# Altium schematic symbol library ubloxLib.SchLib: 110 symbols (part 2 of 4)
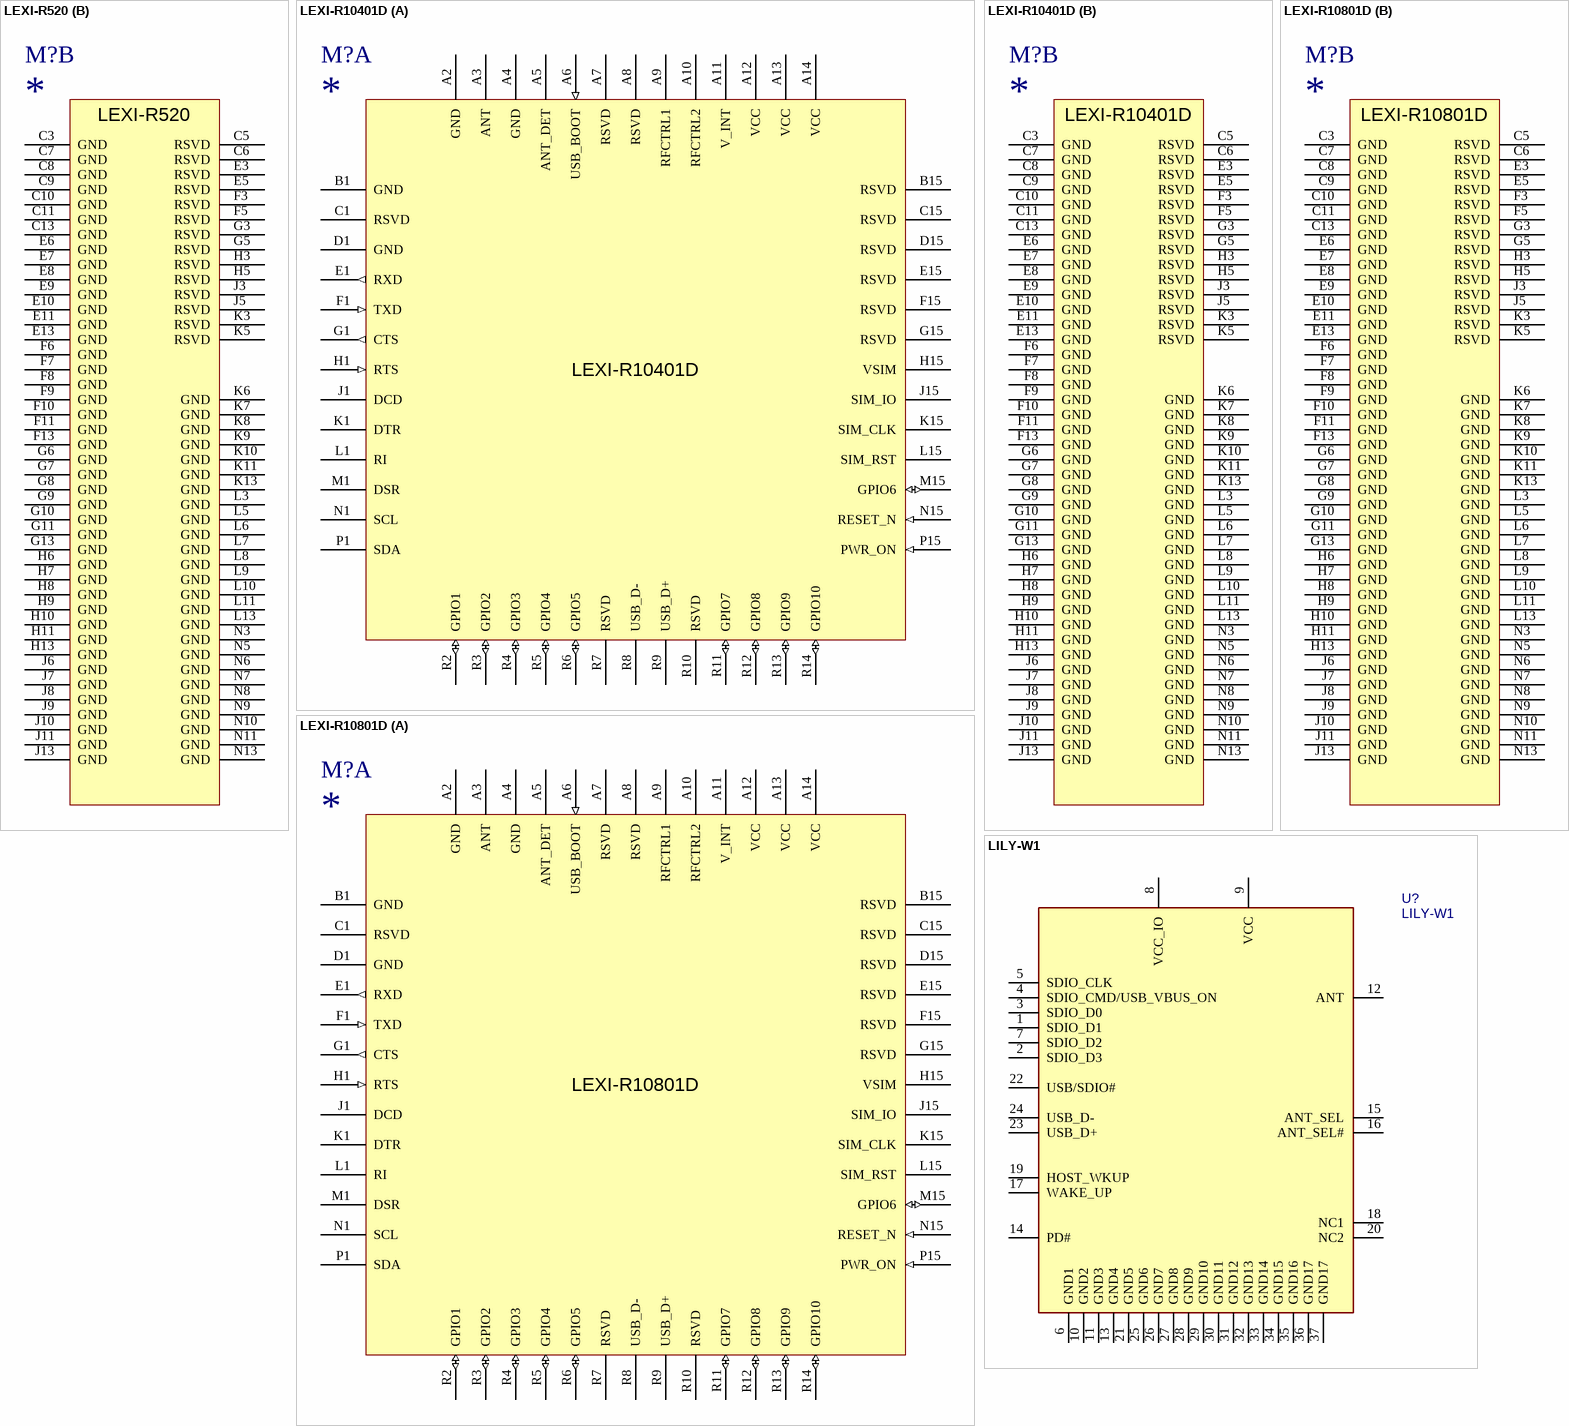
[diagram p24: symbols LEXI-R520 to LILY-W1]

## LEXI-R10801D
designator M?
u-blox LEXI-R10 series modules, a complete and cost-efficient / solution offering multi-band LTE Cat 1bis data transmissions in the ultra-compact LEXI form factor.; Manufacturer P/N: *
footprint LEXI (Footprint not found)
part A pins: A2 GND (power), A3 ANT "Cellular antenna", A4 GND (power), A5 ANT_DET "GPS antenna", A6 USB_BOOT (in), A7 RSVD (power), A8 RSVD (power), A9 RFCTRL1 "Antenna detection", A10 RFCTRL2 "GPS Antenna / LNA supply control", A11 V_INT "RF GPIO for cellular antenna tuning", A12 VCC "RF GPIO for cellular antenna tuning", A13 VCC "ADC input", A14 VCC "ADC input", B1 GND "Digital Interfaces supply output", B15 RSVD "Leave unconnected", C1 RSVD "UART data output", C15 RSVD "Leave unconnected", D1 GND "UARTdata input", D15 RSVD "Leave unconnected", E1 RXD (out) "UART clear to send", E15 RSVD "Leave unconnected", F1 TXD (in) "UART request to send", F15 RSVD "Leave unconnected", G1 CTS (out) "UART data carrier detect /  AUX UART data output", G15 RSVD "Leave unconnected", H1 RTS (in) "UART data terminal ready /  AUX UART data input", H15 VSIM "SIM voltage", J1 DCD "UART ring indicator /  AUX UART clear to send", J15 SIM_IO "SIM data", K1 DTR "UART data set ready /  AUX UART request to send", K15 SIM_CLK "SIM clock", L1 RI "Power-on input", L15 SIM_RST "SIM reset", M1 DSR "Leave unconnected", M15 GPIO6 (io) "SIM detection GPIO", N1 SCL "I2C bus clock line", N15 RESET_N (in) "Reset input (active low)", P1 SDA "I2C bus data line", P15 PWR_ON (in) "Power on input (active low)", R2 GPIO1 (io), R3 GPIO2 (io), R4 GPIO3 (io), R5 GPIO4 (io) "USB Data Line D-", R6 GPIO5 (io) "USB Data Line D+", R7 RSVD "Leave unconnected", R8 USB_D- "USB supply input", R9 USB_D+, R10 RSVD "Leave unconnected", R11 GPIO7 (io), R12 GPIO8 (io), R13 GPIO9 (io), R14 GPIO10 (io)
part B pins: C3 GND (power), C5 RSVD (power), C6 RSVD (power) "Module supply input", C7 GND (power), C8 GND (power), C9 GND (power), C10 GND (power), C11 GND (power), C13 GND (power), E3 RSVD (power) "Module supply input", E5 RSVD (power), E6 GND (power), E7 GND (power), E8 GND (power), E9 GND (power), E10 GND (power), E11 GND (power), E13 GND (power), F3 RSVD (power) "Module supply input", F5 RSVD (power), F6 GND (power), F7 GND (power), F8 GND (power), F9 GND (power), F10 GND (power), F11 GND (power), F13 GND (power), G3 RSVD (power), G5 RSVD (power), G6 GND (power), G7 GND (power), G8 GND (power), G9 GND (power), G10 GND (power), G11 GND (power), G13 GND (power), H3 RSVD (power), H5 RSVD (power), H6 GND (power), H7 GND (power), H8 GND (power), H9 GND (power), H10 GND (power), H11 GND (power), H13 GND (power), J3 RSVD (power), J5 RSVD (power), J6 GND (power), J7 GND (power), J8 GND (power), J9 GND (power), J10 GND (power), J11 GND (power), J13 GND (power), K3 RSVD (power), K5 RSVD (power), K6 GND (power), K7 GND (power), K8 GND (power), K9 GND (power), K10 GND (power), K11 GND (power), K13 GND (power), L3 GND (power), L5 GND (power), L6 GND (power), L7 GND (power), L8 GND (power), L9 GND (power), L10 GND (power), L11 GND (power), L13 GND (power), N3 GND (power), N5 GND (power), N6 GND (power), N7 GND (power), N8 GND (power), N9 GND (power), N10 GND (power), N11 GND (power), N13 GND (power)

## LILY-W1
designator U?
u-blox LILY-W1 host-based Wi-Fi module; Part Description: Host-based Wi-Fi module; Value: LILY-W1; Manufacturer: u-blox
footprint LILY-W1 (Host-based Wi-Fi module)
pins: 1 SDIO_D1, 2 SDIO_D3, 3 SDIO_D0, 4 SDIO_CMD/USB_VBUS_ON, 5 SDIO_CLK, 6 GND1, 7 SDIO_D2, 8 VCC_IO, 9 VCC, 10 GND2, 11 GND3, 12 ANT, 13 GND4, 14 PD#, 15 ANT_SEL, 16 ANT_SEL#, 17 WAKE_UP, 18 NC1, 19 HOST_WKUP, 20 NC2, 21 GND5, 22 USB/SDIO#, 23 USB_D+, 24 USB_D-, 25 GND6, 26 GND7, 27 GND8, 28 GND9, 29 GND10, 30 GND11, 31 GND12, 32 GND13, 33 GND14, 34 GND15, 35 GND16, 36 GND17, 37 GND17

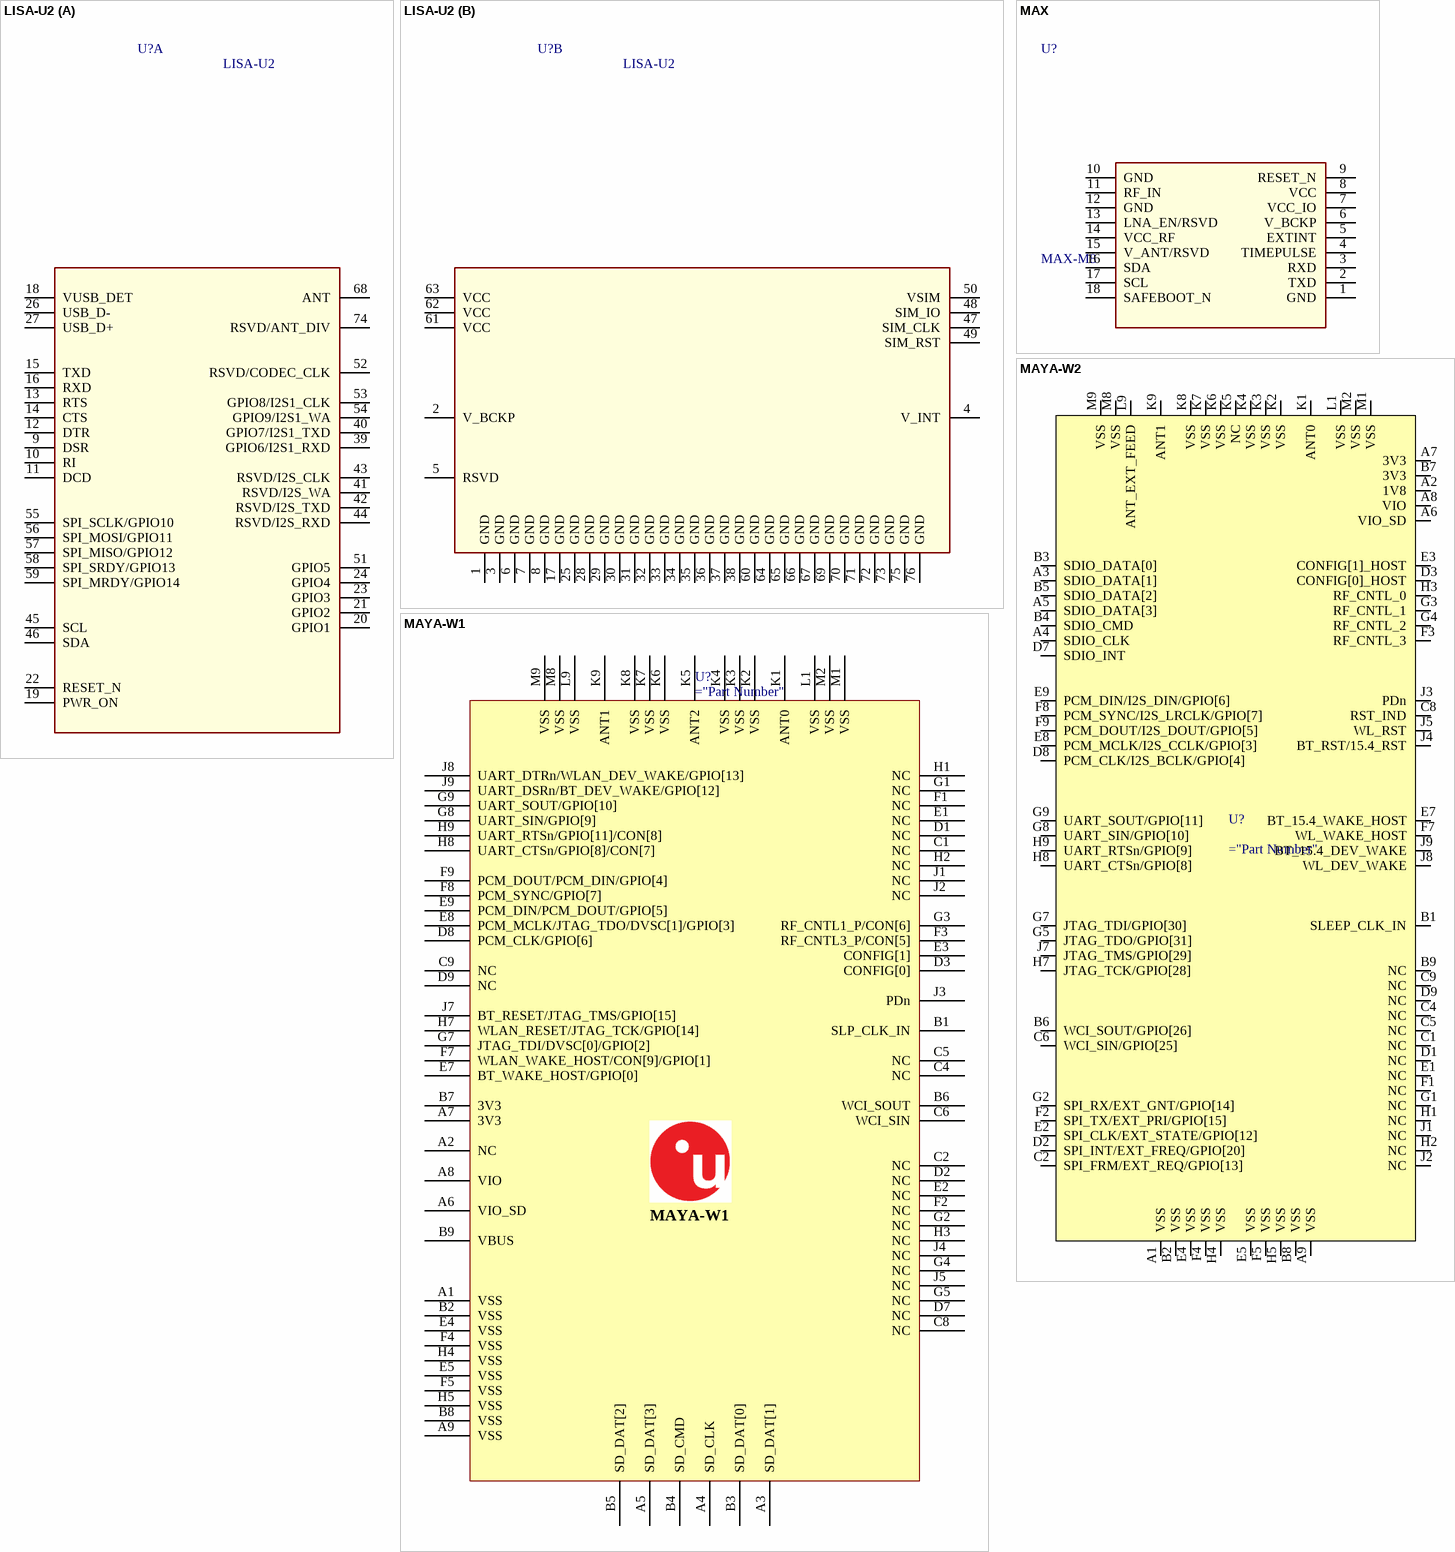
[diagram p8: symbols LISA-U2 to MAYA-W2]

## LISA-U2
designator U?
u-blox LISA-U2 3.75G HSPA+ Cellular Module; Manufacturer: u-blox; Part Description: 3.75G HSPA+ Cellular Module; Value: LISA-U2
footprint LISA-u2 (3.75G HSPA+ Cellular Module)
part A pins: 9 DSR, 10 RI, 11 DCD, 12 DTR, 13 RTS, 14 CTS, 15 TXD, 16 RXD, 18 VUSB_DET, 19 PWR_ON, 20 GPIO1, 21 GPIO2, 22 RESET_N, 23 GPIO3, 24 GPIO4, 26 USB_D-, 27 USB_D+, 39 GPIO6/I2S1_RXD, 40 GPIO7/I2S1_TXD, 41 RSVD/I2S_WA, 42 RSVD/I2S_TXD, 43 RSVD/I2S_CLK, 44 RSVD/I2S_RXD, 45 SCL, 46 SDA, 51 GPIO5, 52 RSVD/CODEC_CLK, 53 GPIO8/I2S1_CLK, 54 GPIO9/I2S1_WA, 55 SPI_SCLK/GPIO10, 56 SPI_MOSI/GPIO11, 57 SPI_MISO/GPIO12, 58 SPI_SRDY/GPIO13, 59 SPI_MRDY/GPIO14, 68 ANT, 74 RSVD/ANT_DIV
part B pins: 1 GND, 2 V_BCKP, 3 GND, 4 V_INT, 5 RSVD, 6 GND, 7 GND, 8 GND, 17 GND, 25 GND, 28 GND, 29 GND, 30 GND, 31 GND, 32 GND, 33 GND, 34 GND, 35 GND, 36 GND, 37 GND, 38 GND, 47 SIM_CLK, 48 SIM_IO, 49 SIM_RST, 50 VSIM, 60 GND, 61 VCC, 62 VCC, 63 VCC, 64 GND, 65 GND, 66 GND, 67 GND, 69 GND, 70 GND, 71 GND, 72 GND, 73 GND, 75 GND, 76 GND

## MAX
designator U?, comment MAX-M8
u-blox MAX GNSS module; Part Description: u-blox GNSS module; Manufacturer: u-blox; Value: MAX-M8
footprint MAX-M8 (u-blox M8 concurrent GNSS modules)
pins: 1 GND, 2 TXD, 3 RXD, 4 TIMEPULSE, 5 EXTINT, 6 V_BCKP, 7 VCC_IO, 8 VCC, 9 RESET_N, 10 GND, 11 RF_IN, 12 GND, 13 LNA_EN/RSVD, 14 VCC_RF, 15 V_ANT/RSVD, 16 SDA, 17 SCL, 18 SAFEBOOT_N

## MAYA-W1
designator U?
u-blox MAYA-W1 host-based modules with Wi-Fi and dual-mode Bluetooth; ComponentLink1URL: *; ComponentLink1Description: Datasheet; ComponentLink2URL: *; ComponentLink2Description: Supplier link; Manufacturer P/N: *
footprint MAYA-W1 (MAYA LGA, 86pin ,1.1mm Pitch, 14.3mm x 10.4mm)
pins: A1 VSS (power), A2 NC, A3 SD_DAT[1], A4 SD_CLK, A5 SD_DAT[3], A6 VIO_SD, A7 3V3 (power), A8 VIO (power), A9 VSS (power), B1 SLP_CLK_IN, B2 VSS (power), B3 SD_DAT[0], B4 SD_CMD, B5 SD_DAT[2], B6 WCI_SOUT, B7 3V3 (power), B8 VSS (power), B9 VBUS (power), C1 NC, C2 NC, C4 NC, C5 NC, C6 WCI_SIN, C8 NC, C9 NC, D1 NC, D2 NC, D3 CONFIG[0], D7 NC, D8 PCM_CLK/GPIO[6], D9 NC, E1 NC, E2 NC, E3 CONFIG[1], E4 VSS (power), E5 VSS (power), E7 BT_WAKE_HOST/GPIO[0], E8 PCM_MCLK/JTAG_TDO/DVSC[1]/GPIO[3], E9 PCM_DIN/PCM_DOUT/GPIO[5], F1 NC, F2 NC, F3 RF_CNTL3_P/CON[5], F4 VSS (power), F5 VSS (power), F7 WLAN_WAKE_HOST/CON[9]/GPIO[1], F8 PCM_SYNC/GPIO[7], F9 PCM_DOUT/PCM_DIN/GPIO[4], G1 NC, G2 NC, G3 RF_CNTL1_P/CON[6], G4 NC, G5 NC, G7 JTAG_TDI/DVSC[0]/GPIO[2], G8 UART_SIN/GPIO[9], G9 UART_SOUT/GPIO[10], H1 NC, H2 NC, H3 NC, H4 VSS (power), H5 VSS (power), H7 WLAN_RESET/JTAG_TCK/GPIO[14], H8 UART_CTSn/GPIO[8]/CON[7], H9 UART_RTSn/GPIO[11]/CON[8], J1 NC, J2 NC, J3 PDn, J4 NC, J5 NC, J7 BT_RESET/JTAG_TMS/GPIO[15], J8 UART_DTRn/WLAN_DEV_WAKE/GPIO[13], J9 UART_DSRn/BT_DEV_WAKE/GPIO[12], K1 ANT0, K2 VSS (power), K3 VSS (power), K4 VSS (power), K5 ANT2, K6 VSS (power), K7 VSS (power), K8 VSS (power), K9 ANT1, L1 VSS (power), L9 VSS (power), M1 VSS (power), M2 VSS (power), M8 VSS (power), M9 VSS (power)

## MAYA-W2
designator U?
u-blox MAYA-W2 host-based modules with Wi-Fi and dual-mode Bluetooth
footprint MAYA-W2_2UFL-ANT (MAYA-W2 Footprint 86 Pin, / U.FL Antenna connection)
footprint MAYA-W2_EMB-ANT (MAYA-W2 Footprint 86 Pin, / Embedded antenna)
pins: A1 VSS, A2 1V8, A3 SDIO_DATA[1], A4 SDIO_CLK, A5 SDIO_DATA[3], A6 VIO_SD, A7 3V3, A8 VIO, A9 VSS, B1 SLEEP_CLK_IN, B2 VSS, B3 SDIO_DATA[0], B4 SDIO_CMD, B5 SDIO_DATA[2], B6 WCI_SOUT/GPIO[26], B7 3V3, B8 VSS, B9 NC "reserved for VUSB", C1 NC "reserved for PCIe", C2 SPI_FRM/EXT_REQ/GPIO[13], C4 NC "reserved for I2C", C5 NC "reserved for I2C", C6 WCI_SIN/GPIO[25], C8 RST_IND, C9 NC "reserved for USB", D1 NC "reserved for PCIe", D2 SPI_INT/EXT_FREQ/GPIO[20], D3 CONFIG[0]_HOST, D7 SDIO_INT, D8 PCM_CLK/I2S_BCLK/GPIO[4], D9 NC "reserved for USB", E1 NC "reserved for PCIe", E2 SPI_CLK/EXT_STATE/GPIO[12], E3 CONFIG[1]_HOST, E4 VSS, E5 VSS, E7 BT_15.4_WAKE_HOST, E8 PCM_MCLK/I2S_CCLK/GPIO[3], E9 PCM_DIN/I2S_DIN/GPIO[6], F1 NC "reserved for PCIe", F2 SPI_TX/EXT_PRI/GPIO[15], F3 RF_CNTL_3, F4 VSS, F5 VSS, F7 WL_WAKE_HOST, F8 PCM_SYNC/I2S_LRCLK/GPIO[7], F9 PCM_DOUT/I2S_DOUT/GPIO[5], G1 NC "reserved for PCIe", G2 SPI_RX/EXT_GNT/GPIO[14], G3 RF_CNTL_1, G4 RF_CNTL_2, G5 JTAG_TDO/GPIO[31], G7 JTAG_TDI/GPIO[30], G8 UART_SIN/GPIO[10], G9 UART_SOUT/GPIO[11], H1 NC "reserved for PCIe", H2 NC "reserved for PCIe", H3 RF_CNTL_0, H4 VSS, H5 VSS, H7 JTAG_TCK/GPIO[28], H8 UART_CTSn/GPIO[8], H9 UART_RTSn/GPIO[9], J1 NC "reserved for PCIe", J2 NC "reserved for PCIe", J3 PDn, J4 BT_RST/15.4_RST, J5 WL_RST, J7 JTAG_TMS/GPIO[29], J8 WL_DEV_WAKE, J9 BT_15.4_DEV_WAKE, K1 ANT0, K2 VSS, K3 VSS, K4 VSS, K5 NC, K6 VSS, K7 VSS, K8 VSS, K9 ANT1, L1 VSS, L9 ANT_EXT_FEED, M1 VSS, M2 VSS, M8 VSS, M9 VSS

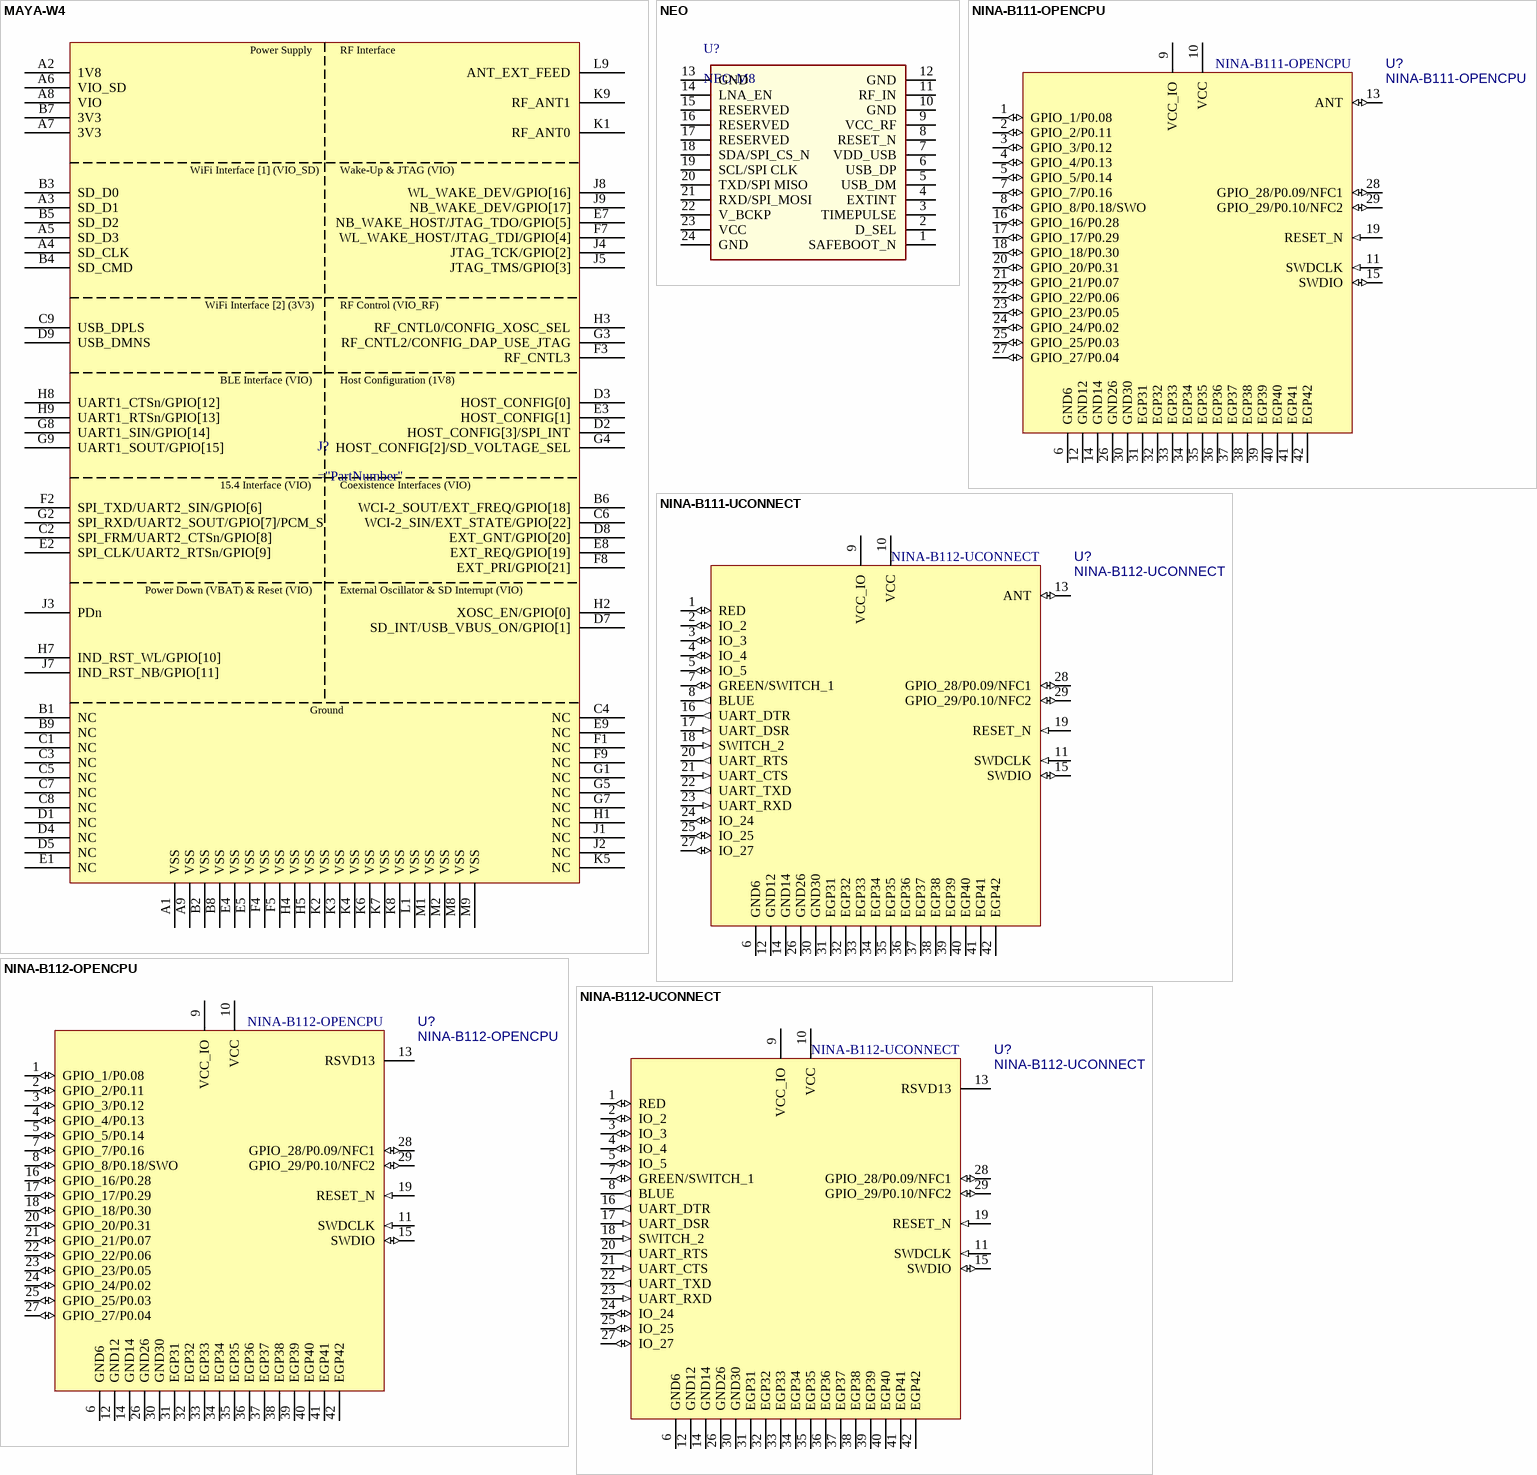
[diagram p9: symbols MAYA-W4 to NINA-B112-UCONNECT]

## MAYA-W4
designator J?
u-blox MAYA-W4 host-based modules with Wi-Fi and dual-mode Bluetooth; Part Description: MAYA-W4 Triradio Wlan, BLE, 15.4 module; Env: ROHS; Permitted Use: Volume Products; Mfg P/N Released: Yes; Ref Des: J; Manufacturer PN: MAYA-W4; Manufacturer: u-blox; Value: MAYA-W4; Supplier: u-blox; Part Type: PCB Assembly; Preferred: Yes
footprint MAYA_LGA90R_1430X1040 (MAYA-W4 LGA-90)
pins: A1 VSS, A2 1V8, A3 SD_D1, A4 SD_CLK, A5 SD_D3, A6 VIO_SD, A7 3V3, A8 VIO, A9 VSS, B1 NC, B2 VSS, B3 SD_D0, B4 SD_CMD, B5 SD_D2, B6 WCI-2_SOUT/EXT_FREQ/GPIO[18], B7 3V3, B8 VSS, B9 NC, C1 NC, C2 SPI_FRM/UART2_CTSn/GPIO[8], C3 NC, C4 NC, C5 NC, C6 WCI-2_SIN/EXT_STATE/GPIO[22], C7 NC, C8 NC, C9 USB_DPLS, D1 NC, D2 HOST_CONFIG[3]/SPI_INT, D3 HOST_CONFIG[0], D4 NC, D5 NC, D7 SD_INT/USB_VBUS_ON/GPIO[1], D8 EXT_GNT/GPIO[20], D9 USB_DMNS, E1 NC, E2 SPI_CLK/UART2_RTSn/GPIO[9], E3 HOST_CONFIG[1], E4 VSS, E5 VSS, E7 NB_WAKE_HOST/JTAG_TDO/GPIO[5], E8 EXT_REQ/GPIO[19], E9 NC, F1 NC, F2 SPI_TXD/UART2_SIN/GPIO[6], F3 RF_CNTL3, F4 VSS, F5 VSS, F7 WL_WAKE_HOST/JTAG_TDI/GPIO[4], F8 EXT_PRI/GPIO[21], F9 NC, G1 NC, G2 SPI_RXD/UART2_SOUT/GPIO[7]/PCM_S, G3 RF_CNTL2/CONFIG_DAP_USE_JTAG, G4 HOST_CONFIG[2]/SD_VOLTAGE_SEL, G5 NC, G7 NC, G8 UART1_SIN/GPIO[14], G9 UART1_SOUT/GPIO[15], H1 NC, H2 XOSC_EN/GPIO[0], H3 RF_CNTL0/CONFIG_XOSC_SEL, H4 VSS, H5 VSS, H7 IND_RST_WL/GPIO[10], H8 UART1_CTSn/GPIO[12], H9 UART1_RTSn/GPIO[13], J1 NC, J2 NC, J3 PDn, J4 JTAG_TCK/GPIO[2], J5 JTAG_TMS/GPIO[3], J7 IND_RST_NB/GPIO[11], J8 WL_WAKE_DEV/GPIO[16], J9 NB_WAKE_DEV/GPIO[17], K1 RF_ANT0, K2 VSS, K3 VSS, K4 VSS, K5 NC, K6 VSS, K7 VSS, K8 VSS, K9 RF_ANT1, L1 VSS, L9 ANT_EXT_FEED, M1 VSS, M2 VSS, M8 VSS, M9 VSS
text: Power Supply; RF Interface; WiFi Interface [1] (VIO_SD); Wake-Up & JTAG (VIO); WiFi Interface [2] (3V3); RF Control (VIO_RF); BLE Interface (VIO); Host Configuration (1V8); 15.4 Interface (VIO); Coexistence Interfaces (VIO); Power Down (VBAT) & Reset (VIO); External Oscillator & SD Interrupt (VIO); Ground

## NEO
designator U?, comment NEO-M8
u-blox NEO GNSS module; Part Description: u-blox GNSS module; Manufacturer: u-blox; Value: NEO-M8
footprint NEO (u-blox NEO GNSS module)
pins: 1 SAFEBOOT_N, 2 D_SEL, 3 TIMEPULSE, 4 EXTINT, 5 USB_DM, 6 USB_DP, 7 VDD_USB, 8 RESET_N, 9 VCC_RF, 10 GND, 11 RF_IN, 12 GND, 13 GND, 14 LNA_EN, 15 RESERVED, 16 RESERVED, 17 RESERVED, 18 SDA/SPI_CS_N, 19 SCL/SPI CLK, 20 TXD/SPI MISO, 21 RXD/SPI_MOSI, 22 V_BCKP, 23 VCC, 24 GND

## NINA-B111-OPENCPU
designator U?
u-blox NINA-B112 Bluetooth 5 LE module; Part Description: Stand-alone Bluetooth low energy module; Manufacturer: u-blox; Value: NINA-B111-OPENCPU
footprint NINA_LGA42R_1060X1000X220_PIN (Stand-alone Bluetooth low energy module)
pins: 1 GPIO_1/P0.08 (io), 2 GPIO_2/P0.11 (io), 3 GPIO_3/P0.12 (io), 4 GPIO_4/P0.13 (io), 5 GPIO_5/P0.14 (io), 6 GND6 (power), 7 GPIO_7/P0.16 (io), 8 GPIO_8/P0.18/SWO (io), 9 VCC_IO (power), 10 VCC (power), 11 SWDCLK (in), 12 GND12 (power), 13 ANT (io), 14 GND14 (power), 15 SWDIO (io), 16 GPIO_16/P0.28 (io), 17 GPIO_17/P0.29 (io), 18 GPIO_18/P0.30 (io), 19 RESET_N (in), 20 GPIO_20/P0.31 (io), 21 GPIO_21/P0.07 (io), 22 GPIO_22/P0.06 (io), 23 GPIO_23/P0.05 (io), 24 GPIO_24/P0.02 (io), 25 GPIO_25/P0.03 (io), 26 GND26 (power), 27 GPIO_27/P0.04 (io), 28 GPIO_28/P0.09/NFC1 (io), 29 GPIO_29/P0.10/NFC2 (io), 30 GND30 (power), 31 EGP31 (power), 32 EGP32 (power), 33 EGP33 (power), 34 EGP34 (power), 35 EGP35 (power), 36 EGP36 (power), 37 EGP37 (power), 38 EGP38 (power), 39 EGP39 (power), 40 EGP40 (power), 41 EGP41 (power), 42 EGP42 (power)

## NINA-B111-UCONNECT
designator U?, comment NINA-B112-UCONNECT
u-blox NINA-B112 Bluetooth 5 LE module; Part Description: Stand-alone Bluetooth low energy module; Manufacturer: u-blox; Value: NINA-B112-UCONNECT
footprint NINA_LGA42R_1060X1000X220_PIN (Stand-alone Bluetooth low energy module)
pins: 1 RED (io), 2 IO_2 (io), 3 IO_3 (io), 4 IO_4 (io), 5 IO_5 (io), 6 GND6 (power), 7 GREEN/SWITCH_1 (io), 8 BLUE (out), 9 VCC_IO (power), 10 VCC (power), 11 SWDCLK (in), 12 GND12 (power), 13 ANT (io), 14 GND14 (power), 15 SWDIO (io), 16 UART_DTR (out), 17 UART_DSR (in), 18 SWITCH_2 (in), 19 RESET_N (in), 20 UART_RTS (out), 21 UART_CTS (in), 22 UART_TXD (out), 23 UART_RXD (in), 24 IO_24 (io), 25 IO_25 (io), 26 GND26 (power), 27 IO_27 (io), 28 GPIO_28/P0.09/NFC1 (io), 29 GPIO_29/P0.10/NFC2 (io), 30 GND30 (power), 31 EGP31 (power), 32 EGP32 (power), 33 EGP33 (power), 34 EGP34 (power), 35 EGP35 (power), 36 EGP36 (power), 37 EGP37 (power), 38 EGP38 (power), 39 EGP39 (power), 40 EGP40 (power), 41 EGP41 (power), 42 EGP42 (power)

## NINA-B112-OPENCPU
designator U?
u-blox NINA-B112 Bluetooth 5 LE module; Part Description: Stand-alone Bluetooth low energy module; Manufacturer: u-blox; Value: NINA-B112-OPENCPU
footprint NINA_LGA42R_1400X1000X380_PIFA (Stand-alone Bluetooth low energy module)
pins: 1 GPIO_1/P0.08 (io), 2 GPIO_2/P0.11 (io), 3 GPIO_3/P0.12 (io), 4 GPIO_4/P0.13 (io), 5 GPIO_5/P0.14 (io), 6 GND6 (power), 7 GPIO_7/P0.16 (io), 8 GPIO_8/P0.18/SWO (io), 9 VCC_IO (power), 10 VCC (power), 11 SWDCLK (in), 12 GND12 (power), 13 RSVD13, 14 GND14 (power), 15 SWDIO (io), 16 GPIO_16/P0.28 (io), 17 GPIO_17/P0.29 (io), 18 GPIO_18/P0.30 (io), 19 RESET_N (in), 20 GPIO_20/P0.31 (io), 21 GPIO_21/P0.07 (io), 22 GPIO_22/P0.06 (io), 23 GPIO_23/P0.05 (io), 24 GPIO_24/P0.02 (io), 25 GPIO_25/P0.03 (io), 26 GND26 (power), 27 GPIO_27/P0.04 (io), 28 GPIO_28/P0.09/NFC1 (io), 29 GPIO_29/P0.10/NFC2 (io), 30 GND30 (power), 31 EGP31 (power), 32 EGP32 (power), 33 EGP33 (power), 34 EGP34 (power), 35 EGP35 (power), 36 EGP36 (power), 37 EGP37 (power), 38 EGP38 (power), 39 EGP39 (power), 40 EGP40 (power), 41 EGP41 (power), 42 EGP42 (power)

## NINA-B112-UCONNECT
designator U?
u-blox NINA-B112 Bluetooth 5 LE module; Part Description: Stand-alone Bluetooth low energy module; Manufacturer: u-blox; Value: NINA-B112-UCONNECT
footprint NINA_LGA42R_1400X1000X380_PIFA (Stand-alone Bluetooth low energy module)
pins: 1 RED (io), 2 IO_2 (io), 3 IO_3 (io), 4 IO_4 (io), 5 IO_5 (io), 6 GND6 (power), 7 GREEN/SWITCH_1 (io), 8 BLUE (out), 9 VCC_IO (power), 10 VCC (power), 11 SWDCLK (in), 12 GND12 (power), 13 RSVD13, 14 GND14 (power), 15 SWDIO (io), 16 UART_DTR (out), 17 UART_DSR (in), 18 SWITCH_2 (in), 19 RESET_N (in), 20 UART_RTS (out), 21 UART_CTS (in), 22 UART_TXD (out), 23 UART_RXD (in), 24 IO_24 (io), 25 IO_25 (io), 26 GND26 (power), 27 IO_27 (io), 28 GPIO_28/P0.09/NFC1 (io), 29 GPIO_29/P0.10/NFC2 (io), 30 GND30 (power), 31 EGP31 (power), 32 EGP32 (power), 33 EGP33 (power), 34 EGP34 (power), 35 EGP35 (power), 36 EGP36 (power), 37 EGP37 (power), 38 EGP38 (power), 39 EGP39 (power), 40 EGP40 (power), 41 EGP41 (power), 42 EGP42 (power)

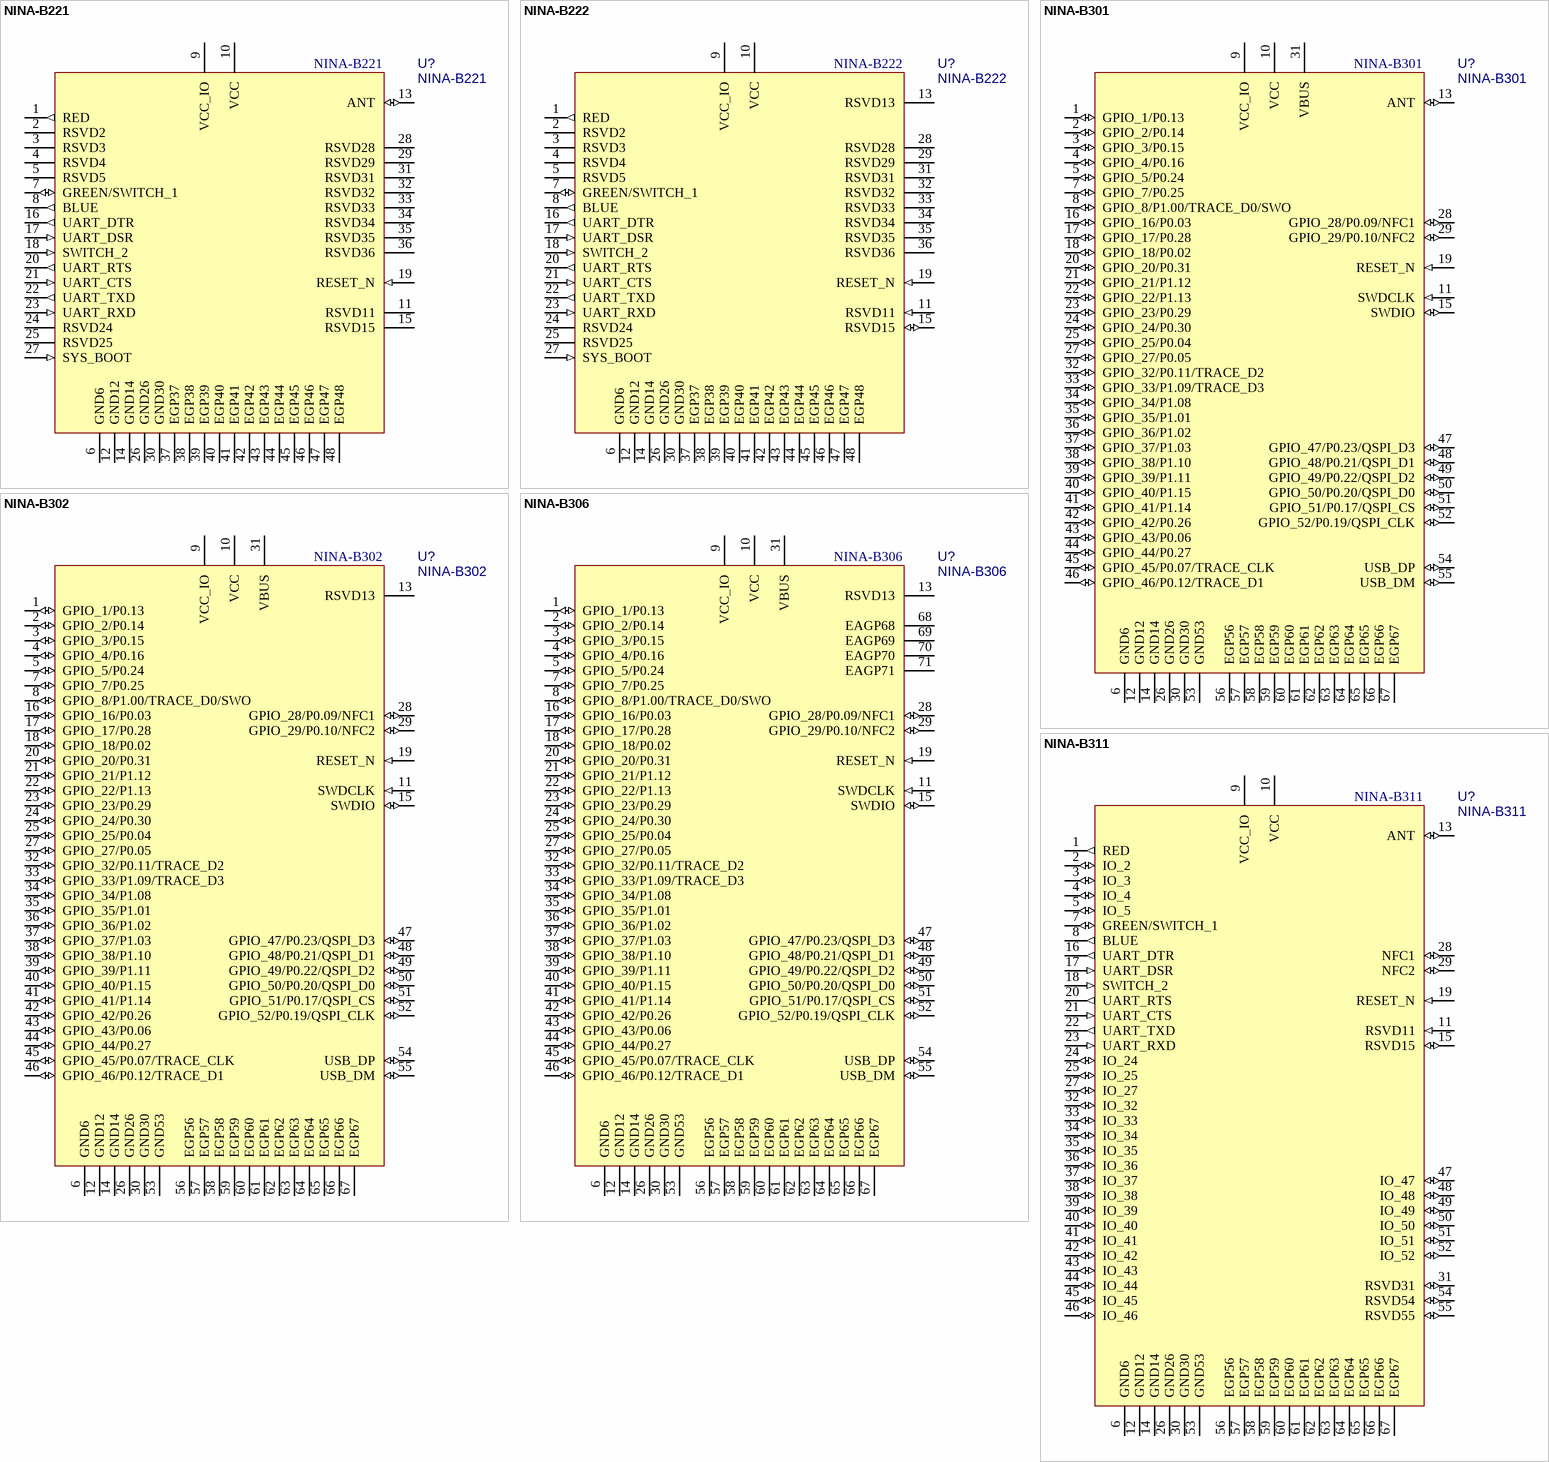
[diagram p10: symbols NINA-B221 to NINA-B311]

## NINA-B221
designator U?
u-blox NINA-B221 Bluetooth 5 LE, WiFi module; Part Description: Stand-alone Bluetooth low energy module; Manufacturer: u-blox; Value: NINA-B221
footprint NINA_LGA48R_1060X1000X220_PIN (Stand-alone Bluetooth low energy module)
pins: 1 RED (out), 2 RSVD2, 3 RSVD3, 4 RSVD4, 5 RSVD5, 6 GND6 (power), 7 GREEN/SWITCH_1 (io), 8 BLUE (out), 9 VCC_IO (power), 10 VCC (power), 11 RSVD11, 12 GND12 (power), 13 ANT (io), 14 GND14 (power), 15 RSVD15, 16 UART_DTR (out), 17 UART_DSR (in), 18 SWITCH_2 (in), 19 RESET_N (in), 20 UART_RTS (out), 21 UART_CTS (in), 22 UART_TXD (out), 23 UART_RXD (in), 24 RSVD24, 25 RSVD25, 26 GND26 (power), 27 SYS_BOOT (in), 28 RSVD28, 29 RSVD29, 30 GND30 (power), 31 RSVD31, 32 RSVD32, 33 RSVD33, 34 RSVD34, 35 RSVD35, 36 RSVD36, 37 EGP37 (power), 38 EGP38 (power), 39 EGP39 (power), 40 EGP40 (power), 41 EGP41 (power), 42 EGP42 (power), 43 EGP43 (power), 44 EGP44 (power), 45 EGP45 (power), 46 EGP46 (power), 47 EGP47 (power), 48 EGP48 (power)

## NINA-B222
designator U?
u-blox NINA-B221 Bluetooth 5 LE, WiFi module; Part Description: Stand-alone Bluetooth low energy module; Manufacturer: u-blox; Value: NINA-B222
footprint NINA_LGA48R_1400X1000X380_PIFA (Stand-alone Bluetooth low energy module)
pins: 1 RED (out), 2 RSVD2, 3 RSVD3, 4 RSVD4, 5 RSVD5, 6 GND6 (power), 7 GREEN/SWITCH_1 (io), 8 BLUE (out), 9 VCC_IO (power), 10 VCC (power), 11 RSVD11 (in), 12 GND12 (power), 13 RSVD13, 14 GND14 (power), 15 RSVD15 (io), 16 UART_DTR (out), 17 UART_DSR (in), 18 SWITCH_2 (in), 19 RESET_N (in), 20 UART_RTS (out), 21 UART_CTS (in), 22 UART_TXD (out), 23 UART_RXD (in), 24 RSVD24, 25 RSVD25, 26 GND26 (power), 27 SYS_BOOT (in), 28 RSVD28, 29 RSVD29, 30 GND30 (power), 31 RSVD31, 32 RSVD32, 33 RSVD33, 34 RSVD34, 35 RSVD35, 36 RSVD36, 37 EGP37 (power), 38 EGP38 (power), 39 EGP39 (power), 40 EGP40 (power), 41 EGP41 (power), 42 EGP42 (power), 43 EGP43 (power), 44 EGP44 (power), 45 EGP45 (power), 46 EGP46 (power), 47 EGP47 (power), 48 EGP48 (power)

## NINA-B301
designator U?
u-blox NINA-B301 Bluetooth 5 LE, 802.15.4 module; Part Description: Stand-alone Bluetooth low energy module; Manufacturer: u-blox; Value: NINA-B301
footprint NINA_LGA67R_1160X1000X223_PIN (Stand-alone Bluetooth low energy module)
pins: 1 GPIO_1/P0.13 (io), 2 GPIO_2/P0.14 (io), 3 GPIO_3/P0.15 (io), 4 GPIO_4/P0.16 (io), 5 GPIO_5/P0.24 (io), 6 GND6 (power), 7 GPIO_7/P0.25 (io), 8 GPIO_8/P1.00/TRACE_D0/SWO (io), 9 VCC_IO (power), 10 VCC (power), 11 SWDCLK (in), 12 GND12 (power), 13 ANT (io), 14 GND14 (power), 15 SWDIO (io), 16 GPIO_16/P0.03 (io), 17 GPIO_17/P0.28 (io), 18 GPIO_18/P0.02 (io), 19 RESET_N (in), 20 GPIO_20/P0.31 (io), 21 GPIO_21/P1.12 (io), 22 GPIO_22/P1.13 (io), 23 GPIO_23/P0.29 (io), 24 GPIO_24/P0.30 (io), 25 GPIO_25/P0.04 (io), 26 GND26 (power), 27 GPIO_27/P0.05 (io), 28 GPIO_28/P0.09/NFC1 (io), 29 GPIO_29/P0.10/NFC2 (io), 30 GND30 (power), 31 VBUS (power), 32 GPIO_32/P0.11/TRACE_D2 (io), 33 GPIO_33/P1.09/TRACE_D3 (io), 34 GPIO_34/P1.08 (io), 35 GPIO_35/P1.01 (io), 36 GPIO_36/P1.02 (io), 37 GPIO_37/P1.03 (io), 38 GPIO_38/P1.10 (io), 39 GPIO_39/P1.11 (io), 40 GPIO_40/P1.15 (io), 41 GPIO_41/P1.14 (io), 42 GPIO_42/P0.26 (io), 43 GPIO_43/P0.06 (io), 44 GPIO_44/P0.27 (io), 45 GPIO_45/P0.07/TRACE_CLK (io), 46 GPIO_46/P0.12/TRACE_D1 (io), 47 GPIO_47/P0.23/QSPI_D3 (io), 48 GPIO_48/P0.21/QSPI_D1 (io), 49 GPIO_49/P0.22/QSPI_D2 (io), 50 GPIO_50/P0.20/QSPI_D0 (io), 51 GPIO_51/P0.17/QSPI_CS (io), 52 GPIO_52/P0.19/QSPI_CLK (io), 53 GND53 (power), 54 USB_DP (io), 55 USB_DM (io), 56 EGP56 (power), 57 EGP57 (power), 58 EGP58 (power), 59 EGP59 (power), 60 EGP60 (power), 61 EGP61 (power), 62 EGP62 (power), 63 EGP63 (power), 64 EGP64 (power), 65 EGP65 (power), 66 EGP66 (power), 67 EGP67 (power)

## NINA-B302
designator U?
u-blox NINA-B302 Bluetooth 5 LE, 802.15.4 module; Part Description: Stand-alone Bluetooth low energy module; Manufacturer: u-blox; Value: NINA-B302
footprint NINA_LGA67R_1500X1000X338_PIFA (Stand-alone Bluetooth low energy module)
pins: 1 GPIO_1/P0.13 (io), 2 GPIO_2/P0.14 (io), 3 GPIO_3/P0.15 (io), 4 GPIO_4/P0.16 (io), 5 GPIO_5/P0.24 (io), 6 GND6 (power), 7 GPIO_7/P0.25 (io), 8 GPIO_8/P1.00/TRACE_D0/SWO (io), 9 VCC_IO (power), 10 VCC (power), 11 SWDCLK (in), 12 GND12 (power), 13 RSVD13, 14 GND14 (power), 15 SWDIO (io), 16 GPIO_16/P0.03 (io), 17 GPIO_17/P0.28 (io), 18 GPIO_18/P0.02 (io), 19 RESET_N (in), 20 GPIO_20/P0.31 (io), 21 GPIO_21/P1.12 (io), 22 GPIO_22/P1.13 (io), 23 GPIO_23/P0.29 (io), 24 GPIO_24/P0.30 (io), 25 GPIO_25/P0.04 (io), 26 GND26 (power), 27 GPIO_27/P0.05 (io), 28 GPIO_28/P0.09/NFC1 (io), 29 GPIO_29/P0.10/NFC2 (io), 30 GND30 (power), 31 VBUS (power), 32 GPIO_32/P0.11/TRACE_D2 (io), 33 GPIO_33/P1.09/TRACE_D3 (io), 34 GPIO_34/P1.08 (io), 35 GPIO_35/P1.01 (io), 36 GPIO_36/P1.02 (io), 37 GPIO_37/P1.03 (io), 38 GPIO_38/P1.10 (io), 39 GPIO_39/P1.11 (io), 40 GPIO_40/P1.15 (io), 41 GPIO_41/P1.14 (io), 42 GPIO_42/P0.26 (io), 43 GPIO_43/P0.06 (io), 44 GPIO_44/P0.27 (io), 45 GPIO_45/P0.07/TRACE_CLK (io), 46 GPIO_46/P0.12/TRACE_D1 (io), 47 GPIO_47/P0.23/QSPI_D3 (io), 48 GPIO_48/P0.21/QSPI_D1 (io), 49 GPIO_49/P0.22/QSPI_D2 (io), 50 GPIO_50/P0.20/QSPI_D0 (io), 51 GPIO_51/P0.17/QSPI_CS (io), 52 GPIO_52/P0.19/QSPI_CLK (io), 53 GND53 (power), 54 USB_DP (io), 55 USB_DM (io), 56 EGP56 (power), 57 EGP57 (power), 58 EGP58 (power), 59 EGP59 (power), 60 EGP60 (power), 61 EGP61 (power), 62 EGP62 (power), 63 EGP63 (power), 64 EGP64 (power), 65 EGP65 (power), 66 EGP66 (power), 67 EGP67 (power)

## NINA-B306
designator U?
u-blox NINA-B306 Bluetooth 5 LE, 802.15.4 module; Part Description: Stand-alone Bluetooth low energy module; Manufacturer: u-blox; Value: NINA-B306
footprint NINA_LGA71R_1500X1000X223_PCB (Stand-alone Bluetooth low energy module)
pins: 1 GPIO_1/P0.13 (io), 2 GPIO_2/P0.14 (io), 3 GPIO_3/P0.15 (io), 4 GPIO_4/P0.16 (io), 5 GPIO_5/P0.24 (io), 6 GND6 (power), 7 GPIO_7/P0.25 (io), 8 GPIO_8/P1.00/TRACE_D0/SWO (io), 9 VCC_IO (power), 10 VCC (power), 11 SWDCLK (in), 12 GND12 (power), 13 RSVD13, 14 GND14 (power), 15 SWDIO (io), 16 GPIO_16/P0.03 (io), 17 GPIO_17/P0.28 (io), 18 GPIO_18/P0.02 (io), 19 RESET_N (in), 20 GPIO_20/P0.31 (io), 21 GPIO_21/P1.12 (io), 22 GPIO_22/P1.13 (io), 23 GPIO_23/P0.29 (io), 24 GPIO_24/P0.30 (io), 25 GPIO_25/P0.04 (io), 26 GND26 (power), 27 GPIO_27/P0.05 (io), 28 GPIO_28/P0.09/NFC1 (io), 29 GPIO_29/P0.10/NFC2 (io), 30 GND30 (power), 31 VBUS (power), 32 GPIO_32/P0.11/TRACE_D2 (io), 33 GPIO_33/P1.09/TRACE_D3 (io), 34 GPIO_34/P1.08 (io), 35 GPIO_35/P1.01 (io), 36 GPIO_36/P1.02 (io), 37 GPIO_37/P1.03 (io), 38 GPIO_38/P1.10 (io), 39 GPIO_39/P1.11 (io), 40 GPIO_40/P1.15 (io), 41 GPIO_41/P1.14 (io), 42 GPIO_42/P0.26 (io), 43 GPIO_43/P0.06 (io), 44 GPIO_44/P0.27 (io), 45 GPIO_45/P0.07/TRACE_CLK (io), 46 GPIO_46/P0.12/TRACE_D1 (io), 47 GPIO_47/P0.23/QSPI_D3 (io), 48 GPIO_48/P0.21/QSPI_D1 (io), 49 GPIO_49/P0.22/QSPI_D2 (io), 50 GPIO_50/P0.20/QSPI_D0 (io), 51 GPIO_51/P0.17/QSPI_CS (io), 52 GPIO_52/P0.19/QSPI_CLK (io), 53 GND53 (power), 54 USB_DP (io), 55 USB_DM (io), 56 EGP56 (power), 57 EGP57 (power), 58 EGP58 (power), 59 EGP59 (power), 60 EGP60 (power), 61 EGP61 (power), 62 EGP62 (power), 63 EGP63 (power), 64 EGP64 (power), 65 EGP65 (power), 66 EGP66 (power), 67 EGP67 (power), 68 EAGP68 (power), 69 EAGP69 (power), 70 EAGP70 (power), 71 EAGP71 (power)

## NINA-B311
designator U?
u-blox NINA-B311 Bluetooth 5 LE, 802.15.4 module; Part Description: Stand-alone Bluetooth low energy module; Manufacturer: u-blox; Value: NINA-B311
footprint NINA_LGA67R_1160X1000X223_PIN (Stand-alone Bluetooth low energy module)
pins: 1 RED (out), 2 IO_2 (io), 3 IO_3 (io), 4 IO_4 (io), 5 IO_5 (io), 6 GND6 (power), 7 GREEN/SWITCH_1 (io), 8 BLUE (out), 9 VCC_IO (power), 10 VCC (power), 11 RSVD11 (in), 12 GND12 (power), 13 ANT (io), 14 GND14 (power), 15 RSVD15 (io), 16 UART_DTR (out), 17 UART_DSR (in), 18 SWITCH_2 (in), 19 RESET_N (in), 20 UART_RTS (out), 21 UART_CTS (in), 22 UART_TXD (out), 23 UART_RXD (in), 24 IO_24 (io), 25 IO_25 (io), 26 GND26 (power), 27 IO_27 (io), 28 NFC1 (io), 29 NFC2 (io), 30 GND30 (power), 31 RSVD31 (io), 32 IO_32 (io), 33 IO_33 (io), 34 IO_34 (io), 35 IO_35 (io), 36 IO_36 (io), 37 IO_37 (io), 38 IO_38 (io), 39 IO_39 (io), 40 IO_40 (io), 41 IO_41 (io), 42 IO_42 (io), 43 IO_43 (io), 44 IO_44 (io), 45 IO_45 (io), 46 IO_46 (io), 47 IO_47 (io), 48 IO_48 (io), 49 IO_49 (io), 50 IO_50 (io), 51 IO_51 (io), 52 IO_52 (io), 53 GND53 (power), 54 RSVD54 (io), 55 RSVD55 (io), 56 EGP56 (power), 57 EGP57 (power), 58 EGP58 (power), 59 EGP59 (power), 60 EGP60 (power), 61 EGP61 (power), 62 EGP62 (power), 63 EGP63 (power), 64 EGP64 (power), 65 EGP65 (power), 66 EGP66 (power), 67 EGP67 (power)

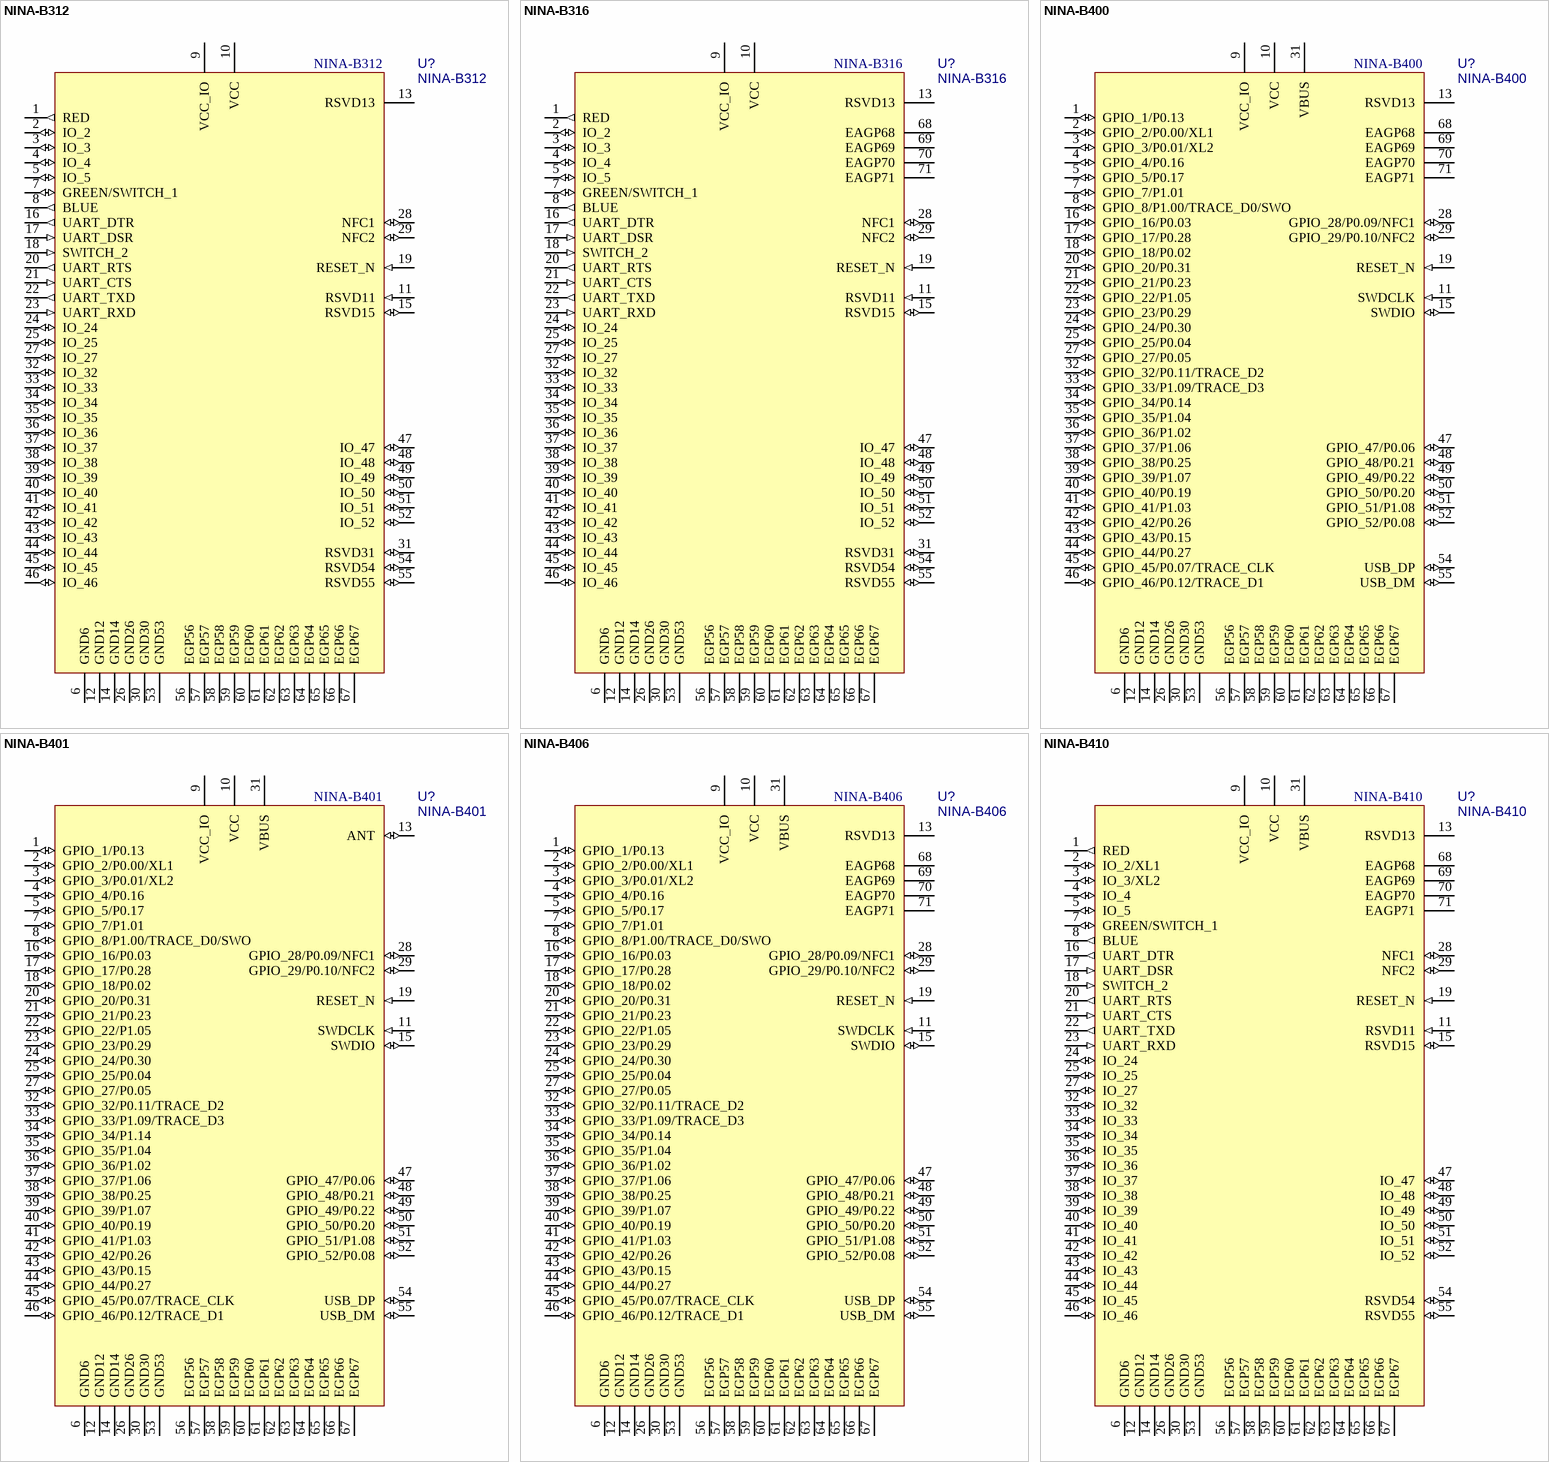
[diagram p11: symbols NINA-B312 to NINA-B410]

## NINA-B312
designator U?
u-blox NINA-B312 Bluetooth 5 LE, 802.15.4 module; Part Description: Stand-alone Bluetooth low energy module; Manufacturer: u-blox; Value: NINA-B312
footprint NINA_LGA67R_1500X1000X338_PIFA (Stand-alone Bluetooth low energy module)
pins: 1 RED (out), 2 IO_2 (io), 3 IO_3 (io), 4 IO_4 (io), 5 IO_5 (io), 6 GND6 (power), 7 GREEN/SWITCH_1 (io), 8 BLUE (out), 9 VCC_IO (power), 10 VCC (power), 11 RSVD11 (in), 12 GND12 (power), 13 RSVD13, 14 GND14 (power), 15 RSVD15 (io), 16 UART_DTR (out), 17 UART_DSR (in), 18 SWITCH_2 (in), 19 RESET_N (in), 20 UART_RTS (out), 21 UART_CTS (in), 22 UART_TXD (out), 23 UART_RXD (in), 24 IO_24 (io), 25 IO_25 (io), 26 GND26 (power), 27 IO_27 (io), 28 NFC1 (io), 29 NFC2 (io), 30 GND30 (power), 31 RSVD31 (io), 32 IO_32 (io), 33 IO_33 (io), 34 IO_34 (io), 35 IO_35 (io), 36 IO_36 (io), 37 IO_37 (io), 38 IO_38 (io), 39 IO_39 (io), 40 IO_40 (io), 41 IO_41 (io), 42 IO_42 (io), 43 IO_43 (io), 44 IO_44 (io), 45 IO_45 (io), 46 IO_46 (io), 47 IO_47 (io), 48 IO_48 (io), 49 IO_49 (io), 50 IO_50 (io), 51 IO_51 (io), 52 IO_52 (io), 53 GND53 (power), 54 RSVD54 (io), 55 RSVD55 (io), 56 EGP56 (power), 57 EGP57 (power), 58 EGP58 (power), 59 EGP59 (power), 60 EGP60 (power), 61 EGP61 (power), 62 EGP62 (power), 63 EGP63 (power), 64 EGP64 (power), 65 EGP65 (power), 66 EGP66 (power), 67 EGP67 (power)

## NINA-B316
designator U?
u-blox NINA-B316 Bluetooth 5 LE, 802.15.4 module; Part Description: Stand-alone Bluetooth low energy module; Manufacturer: u-blox; Value: NINA-B316
footprint NINA_LGA71R_1500X1000X223_PCB (Stand-alone Bluetooth low energy module)
pins: 1 RED (out), 2 IO_2 (io), 3 IO_3 (io), 4 IO_4 (io), 5 IO_5 (io), 6 GND6 (power), 7 GREEN/SWITCH_1 (io), 8 BLUE (out), 9 VCC_IO (power), 10 VCC (power), 11 RSVD11 (in), 12 GND12 (power), 13 RSVD13, 14 GND14 (power), 15 RSVD15 (io), 16 UART_DTR (out), 17 UART_DSR (in), 18 SWITCH_2 (in), 19 RESET_N (in), 20 UART_RTS (out), 21 UART_CTS (in), 22 UART_TXD (out), 23 UART_RXD (in), 24 IO_24 (io), 25 IO_25 (io), 26 GND26 (power), 27 IO_27 (io), 28 NFC1 (io), 29 NFC2 (io), 30 GND30 (power), 31 RSVD31 (io), 32 IO_32 (io), 33 IO_33 (io), 34 IO_34 (io), 35 IO_35 (io), 36 IO_36 (io), 37 IO_37 (io), 38 IO_38 (io), 39 IO_39 (io), 40 IO_40 (io), 41 IO_41 (io), 42 IO_42 (io), 43 IO_43 (io), 44 IO_44 (io), 45 IO_45 (io), 46 IO_46 (io), 47 IO_47 (io), 48 IO_48 (io), 49 IO_49 (io), 50 IO_50 (io), 51 IO_51 (io), 52 IO_52 (io), 53 GND53 (power), 54 RSVD54 (io), 55 RSVD55 (io), 56 EGP56 (power), 57 EGP57 (power), 58 EGP58 (power), 59 EGP59 (power), 60 EGP60 (power), 61 EGP61 (power), 62 EGP62 (power), 63 EGP63 (power), 64 EGP64 (power), 65 EGP65 (power), 66 EGP66 (power), 67 EGP67 (power), 68 EAGP68 (power), 69 EAGP69 (power), 70 EAGP70 (power), 71 EAGP71 (power)

## NINA-B400
designator U?
u-blox NINA-B400 Bluetooth 5 LE, 802.15.4 module; Part Description: Stand-alone Bluetooth low energy module; Manufacturer: u-blox; Value: NINA-B400
footprint NINA_LGA71R_1500X1000X223_UFL (Stand-alone Bluetooth low energy module)
pins: 1 GPIO_1/P0.13 (io), 2 GPIO_2/P0.00/XL1 (io), 3 GPIO_3/P0.01/XL2 (io), 4 GPIO_4/P0.16 (io), 5 GPIO_5/P0.17 (io), 6 GND6 (power), 7 GPIO_7/P1.01 (io), 8 GPIO_8/P1.00/TRACE_D0/SWO (io), 9 VCC_IO (power), 10 VCC (power), 11 SWDCLK (in), 12 GND12 (power), 13 RSVD13, 14 GND14 (power), 15 SWDIO (io), 16 GPIO_16/P0.03 (io), 17 GPIO_17/P0.28 (io), 18 GPIO_18/P0.02 (io), 19 RESET_N (in), 20 GPIO_20/P0.31 (io), 21 GPIO_21/P0.23 (io), 22 GPIO_22/P1.05 (io), 23 GPIO_23/P0.29 (io), 24 GPIO_24/P0.30 (io), 25 GPIO_25/P0.04 (io), 26 GND26 (power), 27 GPIO_27/P0.05 (io), 28 GPIO_28/P0.09/NFC1 (io), 29 GPIO_29/P0.10/NFC2 (io), 30 GND30 (power), 31 VBUS (power), 32 GPIO_32/P0.11/TRACE_D2 (io), 33 GPIO_33/P1.09/TRACE_D3 (io), 34 GPIO_34/P0.14 (io), 35 GPIO_35/P1.04 (io), 36 GPIO_36/P1.02 (io), 37 GPIO_37/P1.06 (io), 38 GPIO_38/P0.25 (io), 39 GPIO_39/P1.07 (io), 40 GPIO_40/P0.19 (io), 41 GPIO_41/P1.03 (io), 42 GPIO_42/P0.26 (io), 43 GPIO_43/P0.15 (io), 44 GPIO_44/P0.27 (io), 45 GPIO_45/P0.07/TRACE_CLK (io), 46 GPIO_46/P0.12/TRACE_D1 (io), 47 GPIO_47/P0.06 (io), 48 GPIO_48/P0.21 (io), 49 GPIO_49/P0.22 (io), 50 GPIO_50/P0.20 (io), 51 GPIO_51/P1.08 (io), 52 GPIO_52/P0.08 (io), 53 GND53 (power), 54 USB_DP (io), 55 USB_DM (io), 56 EGP56 (power), 57 EGP57 (power), 58 EGP58 (power), 59 EGP59 (power), 60 EGP60 (power), 61 EGP61 (power), 62 EGP62 (power), 63 EGP63 (power), 64 EGP64 (power), 65 EGP65 (power), 66 EGP66 (power), 67 EGP67 (power), 68 EAGP68 (power), 69 EAGP69 (power), 70 EAGP70 (power), 71 EAGP71 (power)

## NINA-B401
designator U?
u-blox NINA-B401 Bluetooth 5 LE, 802.15.4 module; Part Description: Stand-alone Bluetooth low energy module; Manufacturer: u-blox; Value: NINA-B401
footprint NINA_LGA67R_1160X1000X223_PIN (Stand-alone Bluetooth low energy module)
pins: 1 GPIO_1/P0.13 (io), 2 GPIO_2/P0.00/XL1 (io), 3 GPIO_3/P0.01/XL2 (io), 4 GPIO_4/P0.16 (io), 5 GPIO_5/P0.17 (io), 6 GND6 (power), 7 GPIO_7/P1.01 (io), 8 GPIO_8/P1.00/TRACE_D0/SWO (io), 9 VCC_IO (power), 10 VCC (power), 11 SWDCLK (in), 12 GND12 (power), 13 ANT (io), 14 GND14 (power), 15 SWDIO (io), 16 GPIO_16/P0.03 (io), 17 GPIO_17/P0.28 (io), 18 GPIO_18/P0.02 (io), 19 RESET_N (in), 20 GPIO_20/P0.31 (io), 21 GPIO_21/P0.23 (io), 22 GPIO_22/P1.05 (io), 23 GPIO_23/P0.29 (io), 24 GPIO_24/P0.30 (io), 25 GPIO_25/P0.04 (io), 26 GND26 (power), 27 GPIO_27/P0.05 (io), 28 GPIO_28/P0.09/NFC1 (io), 29 GPIO_29/P0.10/NFC2 (io), 30 GND30 (power), 31 VBUS (power), 32 GPIO_32/P0.11/TRACE_D2 (io), 33 GPIO_33/P1.09/TRACE_D3 (io), 34 GPIO_34/P1.14 (io), 35 GPIO_35/P1.04 (io), 36 GPIO_36/P1.02 (io), 37 GPIO_37/P1.06 (io), 38 GPIO_38/P0.25 (io), 39 GPIO_39/P1.07 (io), 40 GPIO_40/P0.19 (io), 41 GPIO_41/P1.03 (io), 42 GPIO_42/P0.26 (io), 43 GPIO_43/P0.15 (io), 44 GPIO_44/P0.27 (io), 45 GPIO_45/P0.07/TRACE_CLK (io), 46 GPIO_46/P0.12/TRACE_D1 (io), 47 GPIO_47/P0.06 (io), 48 GPIO_48/P0.21 (io), 49 GPIO_49/P0.22 (io), 50 GPIO_50/P0.20 (io), 51 GPIO_51/P1.08 (io), 52 GPIO_52/P0.08 (io), 53 GND53 (power), 54 USB_DP (io), 55 USB_DM (io), 56 EGP56 (power), 57 EGP57 (power), 58 EGP58 (power), 59 EGP59 (power), 60 EGP60 (power), 61 EGP61 (power), 62 EGP62 (power), 63 EGP63 (power), 64 EGP64 (power), 65 EGP65 (power), 66 EGP66 (power), 67 EGP67 (power)

## NINA-B406
designator U?
u-blox NINA-B406 Bluetooth 5 LE, 802.15.4 module; Part Description: Stand-alone Bluetooth low energy module; Manufacturer: u-blox; Value: NINA-B406
footprint NINA_LGA71R_1500X1000X223_PCB (Stand-alone Bluetooth low energy module)
pins: 1 GPIO_1/P0.13 (io), 2 GPIO_2/P0.00/XL1 (io), 3 GPIO_3/P0.01/XL2 (io), 4 GPIO_4/P0.16 (io), 5 GPIO_5/P0.17 (io), 6 GND6 (power), 7 GPIO_7/P1.01 (io), 8 GPIO_8/P1.00/TRACE_D0/SWO (io), 9 VCC_IO (power), 10 VCC (power), 11 SWDCLK (in), 12 GND12 (power), 13 RSVD13, 14 GND14 (power), 15 SWDIO (io), 16 GPIO_16/P0.03 (io), 17 GPIO_17/P0.28 (io), 18 GPIO_18/P0.02 (io), 19 RESET_N (in), 20 GPIO_20/P0.31 (io), 21 GPIO_21/P0.23 (io), 22 GPIO_22/P1.05 (io), 23 GPIO_23/P0.29 (io), 24 GPIO_24/P0.30 (io), 25 GPIO_25/P0.04 (io), 26 GND26 (power), 27 GPIO_27/P0.05 (io), 28 GPIO_28/P0.09/NFC1 (io), 29 GPIO_29/P0.10/NFC2 (io), 30 GND30 (power), 31 VBUS (power), 32 GPIO_32/P0.11/TRACE_D2 (io), 33 GPIO_33/P1.09/TRACE_D3 (io), 34 GPIO_34/P0.14 (io), 35 GPIO_35/P1.04 (io), 36 GPIO_36/P1.02 (io), 37 GPIO_37/P1.06 (io), 38 GPIO_38/P0.25 (io), 39 GPIO_39/P1.07 (io), 40 GPIO_40/P0.19 (io), 41 GPIO_41/P1.03 (io), 42 GPIO_42/P0.26 (io), 43 GPIO_43/P0.15 (io), 44 GPIO_44/P0.27 (io), 45 GPIO_45/P0.07/TRACE_CLK (io), 46 GPIO_46/P0.12/TRACE_D1 (io), 47 GPIO_47/P0.06 (io), 48 GPIO_48/P0.21 (io), 49 GPIO_49/P0.22 (io), 50 GPIO_50/P0.20 (io), 51 GPIO_51/P1.08 (io), 52 GPIO_52/P0.08 (io), 53 GND53 (power), 54 USB_DP (io), 55 USB_DM (io), 56 EGP56 (power), 57 EGP57 (power), 58 EGP58 (power), 59 EGP59 (power), 60 EGP60 (power), 61 EGP61 (power), 62 EGP62 (power), 63 EGP63 (power), 64 EGP64 (power), 65 EGP65 (power), 66 EGP66 (power), 67 EGP67 (power), 68 EAGP68 (power), 69 EAGP69 (power), 70 EAGP70 (power), 71 EAGP71 (power)

## NINA-B410
designator U?
u-blox NINA-B410 Bluetooth 5 LE, 802.15.4 module; Part Description: Stand-alone Bluetooth low energy module; Manufacturer: u-blox; Value: NINA-B410
footprint NINA_LGA71R_1500X1000X223_UFL (Stand-alone Bluetooth low energy module)
pins: 1 RED (out), 2 IO_2/XL1 (io), 3 IO_3/XL2 (io), 4 IO_4 (io), 5 IO_5 (io), 6 GND6 (power), 7 GREEN/SWITCH_1 (io), 8 BLUE (out), 9 VCC_IO (power), 10 VCC (power), 11 RSVD11 (in), 12 GND12 (power), 13 RSVD13, 14 GND14 (power), 15 RSVD15 (io), 16 UART_DTR (out), 17 UART_DSR (in), 18 SWITCH_2 (in), 19 RESET_N (in), 20 UART_RTS (out), 21 UART_CTS (in), 22 UART_TXD (out), 23 UART_RXD (in), 24 IO_24 (io), 25 IO_25 (io), 26 GND26 (power), 27 IO_27 (io), 28 NFC1 (io), 29 NFC2 (io), 30 GND30 (power), 31 VBUS (power), 32 IO_32 (io), 33 IO_33 (io), 34 IO_34 (io), 35 IO_35 (io), 36 IO_36 (io), 37 IO_37 (io), 38 IO_38 (io), 39 IO_39 (io), 40 IO_40 (io), 41 IO_41 (io), 42 IO_42 (io), 43 IO_43 (io), 44 IO_44 (io), 45 IO_45 (io), 46 IO_46 (io), 47 IO_47 (io), 48 IO_48 (io), 49 IO_49 (io), 50 IO_50 (io), 51 IO_51 (io), 52 IO_52 (io), 53 GND53 (power), 54 RSVD54 (io), 55 RSVD55 (io), 56 EGP56 (power), 57 EGP57 (power), 58 EGP58 (power), 59 EGP59 (power), 60 EGP60 (power), 61 EGP61 (power), 62 EGP62 (power), 63 EGP63 (power), 64 EGP64 (power), 65 EGP65 (power), 66 EGP66 (power), 67 EGP67 (power), 68 EAGP68 (power), 69 EAGP69 (power), 70 EAGP70 (power), 71 EAGP71 (power)

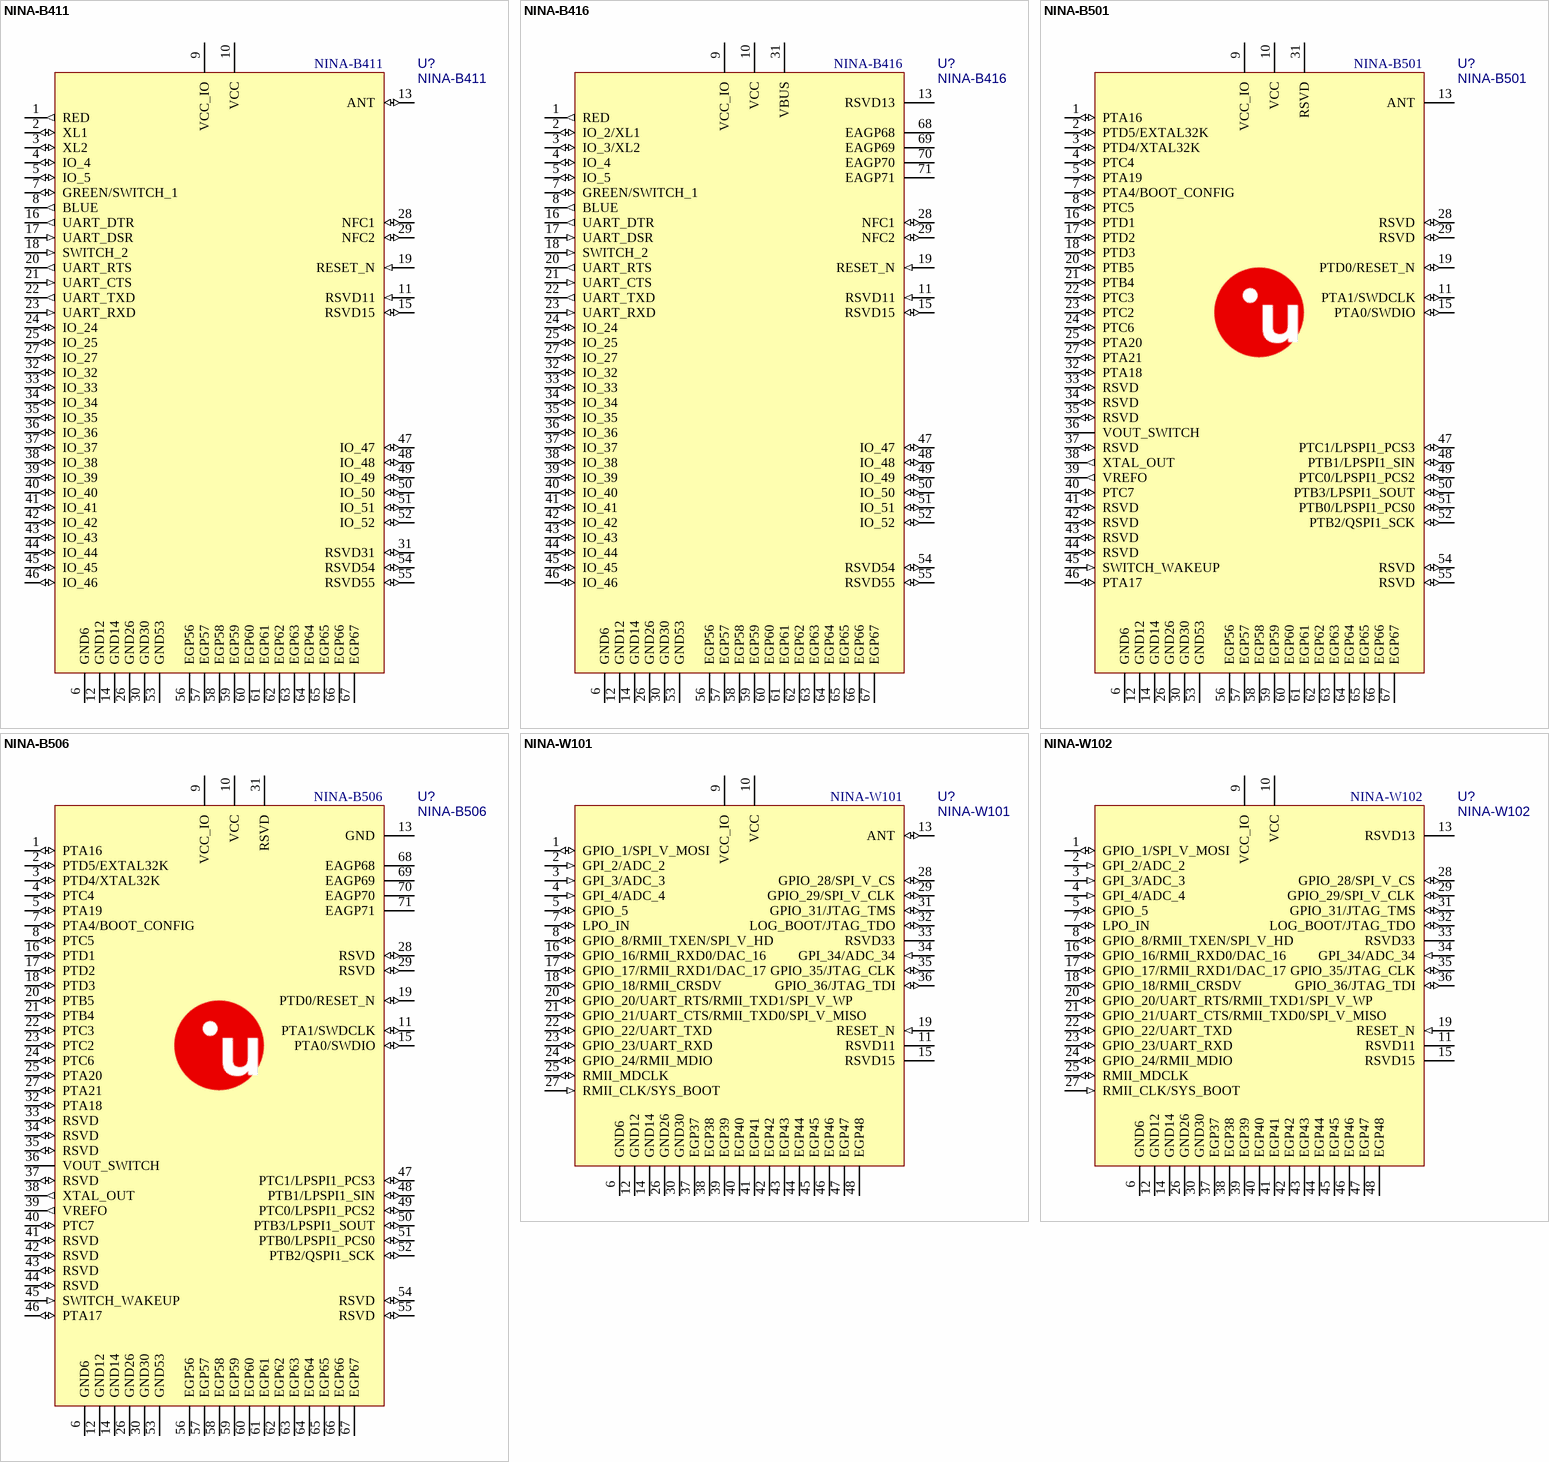
[diagram p12: symbols NINA-B411 to NINA-W102]

## NINA-B411
designator U?
u-blox NINA-B411 Bluetooth 5 LE, 802.15.4 module; Part Description: Stand-alone Bluetooth low energy module; Manufacturer: u-blox; Value: NINA-B411
footprint NINA_LGA67R_1160X1000X223_PIN (Stand-alone Bluetooth low energy module)
pins: 1 RED (out), 2 XL1 (io), 3 XL2 (io), 4 IO_4 (io), 5 IO_5 (io), 6 GND6 (power), 7 GREEN/SWITCH_1 (io), 8 BLUE (out), 9 VCC_IO (power), 10 VCC (power), 11 RSVD11 (in), 12 GND12 (power), 13 ANT (io), 14 GND14 (power), 15 RSVD15 (io), 16 UART_DTR (out), 17 UART_DSR (in), 18 SWITCH_2 (in), 19 RESET_N (in), 20 UART_RTS (out), 21 UART_CTS (in), 22 UART_TXD (out), 23 UART_RXD (in), 24 IO_24 (io), 25 IO_25 (io), 26 GND26 (power), 27 IO_27 (io), 28 NFC1 (io), 29 NFC2 (io), 30 GND30 (power), 31 RSVD31 (io), 32 IO_32 (io), 33 IO_33 (io), 34 IO_34 (io), 35 IO_35 (io), 36 IO_36 (io), 37 IO_37 (io), 38 IO_38 (io), 39 IO_39 (io), 40 IO_40 (io), 41 IO_41 (io), 42 IO_42 (io), 43 IO_43 (io), 44 IO_44 (io), 45 IO_45 (io), 46 IO_46 (io), 47 IO_47 (io), 48 IO_48 (io), 49 IO_49 (io), 50 IO_50 (io), 51 IO_51 (io), 52 IO_52 (io), 53 GND53 (power), 54 RSVD54 (io), 55 RSVD55 (io), 56 EGP56 (power), 57 EGP57 (power), 58 EGP58 (power), 59 EGP59 (power), 60 EGP60 (power), 61 EGP61 (power), 62 EGP62 (power), 63 EGP63 (power), 64 EGP64 (power), 65 EGP65 (power), 66 EGP66 (power), 67 EGP67 (power)

## NINA-B416
designator U?
u-blox NINA-B416 Bluetooth 5 LE, 802.15.4 module; Part Description: Stand-alone Bluetooth low energy module; Manufacturer: u-blox; Value: NINA-B416
footprint NINA_LGA71R_1500X1000X223_PCB (Stand-alone Bluetooth low energy module)
pins: 1 RED (out), 2 IO_2/XL1 (io), 3 IO_3/XL2 (io), 4 IO_4 (io), 5 IO_5 (io), 6 GND6 (power), 7 GREEN/SWITCH_1 (io), 8 BLUE (out), 9 VCC_IO (power), 10 VCC (power), 11 RSVD11 (in), 12 GND12 (power), 13 RSVD13, 14 GND14 (power), 15 RSVD15 (io), 16 UART_DTR (out), 17 UART_DSR (in), 18 SWITCH_2 (in), 19 RESET_N (in), 20 UART_RTS (out), 21 UART_CTS (in), 22 UART_TXD (out), 23 UART_RXD (in), 24 IO_24 (io), 25 IO_25 (io), 26 GND26 (power), 27 IO_27 (io), 28 NFC1 (io), 29 NFC2 (io), 30 GND30 (power), 31 VBUS (power), 32 IO_32 (io), 33 IO_33 (io), 34 IO_34 (io), 35 IO_35 (io), 36 IO_36 (io), 37 IO_37 (io), 38 IO_38 (io), 39 IO_39 (io), 40 IO_40 (io), 41 IO_41 (io), 42 IO_42 (io), 43 IO_43 (io), 44 IO_44 (io), 45 IO_45 (io), 46 IO_46 (io), 47 IO_47 (io), 48 IO_48 (io), 49 IO_49 (io), 50 IO_50 (io), 51 IO_51 (io), 52 IO_52 (io), 53 GND53 (power), 54 RSVD54 (io), 55 RSVD55 (io), 56 EGP56 (power), 57 EGP57 (power), 58 EGP58 (power), 59 EGP59 (power), 60 EGP60 (power), 61 EGP61 (power), 62 EGP62 (power), 63 EGP63 (power), 64 EGP64 (power), 65 EGP65 (power), 66 EGP66 (power), 67 EGP67 (power), 68 EAGP68 (power), 69 EAGP69 (power), 70 EAGP70 (power), 71 EAGP71 (power)

## NINA-B501
designator U?
u-blox NINA-B501 Bluetooth Low Energy 5.3, plus Thread, Zigbee, and Matter module; Part Description: Stand-alone Bluetooth low energy module; Manufacturer: u-blox; Value: NINA-B501
footprint NINA_LGA67R_1160X1000X240_PIN (Stand-alone Bluetooth low energy module)
pins: 1 PTA16 (io), 2 PTD5/EXTAL32K (io), 3 PTD4/XTAL32K (io), 4 PTC4 (io), 5 PTA19 (io), 6 GND6 (power), 7 PTA4/BOOT_CONFIG (io), 8 PTC5 (io), 9 VCC_IO (power), 10 VCC (power), 11 PTA1/SWDCLK (io), 12 GND12 (power), 13 ANT, 14 GND14 (power), 15 PTA0/SWDIO (io), 16 PTD1 (io), 17 PTD2 (io), 18 PTD3 (io), 19 PTD0/RESET_N (io), 20 PTB5 (io), 21 PTB4 (io), 22 PTC3 (io), 23 PTC2 (io), 24 PTC6 (io), 25 PTA20 (io), 26 GND26 (power), 27 PTA21 (io), 28 RSVD (io), 29 RSVD (io), 30 GND30 (power), 31 RSVD (power), 32 PTA18 (io), 33 RSVD (io), 34 RSVD (io), 35 RSVD (io), 36 VOUT_SWITCH (power), 37 RSVD (io), 38 XTAL_OUT (out), 39 VREFO (out), 40 PTC7 (io), 41 RSVD (io), 42 RSVD (io), 43 RSVD (io), 44 RSVD (io), 45 SWITCH_WAKEUP (in), 46 PTA17 (io), 47 PTC1/LPSPI1_PCS3 (io), 48 PTB1/LPSPI1_SIN (io), 49 PTC0/LPSPI1_PCS2 (io), 50 PTB3/LPSPI1_SOUT (io), 51 PTB0/LPSPI1_PCS0 (io), 52 PTB2/QSPI1_SCK (io), 53 GND53 (power), 54 RSVD (io), 55 RSVD (io), 56 EGP56 (power), 57 EGP57 (power), 58 EGP58 (power), 59 EGP59 (power), 60 EGP60 (power), 61 EGP61 (power), 62 EGP62 (power), 63 EGP63 (power), 64 EGP64 (power), 65 EGP65 (power), 66 EGP66 (power), 67 EGP67 (power)

## NINA-B506
designator U?
u-blox NINA-B506 Bluetooth Low Energy 5.3, plus Thread, Zigbee, and Matter module; Part Description: Stand-alone Bluetooth low energy module; Manufacturer: u-blox; Value: NINA-B506
footprint NINA_LGA71R_1500X1000X240_PCB (Stand-alone Bluetooth low energy module)
pins: 1 PTA16 (io), 2 PTD5/EXTAL32K (io), 3 PTD4/XTAL32K (io), 4 PTC4 (io), 5 PTA19 (io), 6 GND6 (power), 7 PTA4/BOOT_CONFIG (io), 8 PTC5 (io), 9 VCC_IO (power), 10 VCC (power), 11 PTA1/SWDCLK (io), 12 GND12 (power), 13 GND, 14 GND14 (power), 15 PTA0/SWDIO (io), 16 PTD1 (io), 17 PTD2 (io), 18 PTD3 (io), 19 PTD0/RESET_N (io), 20 PTB5 (io), 21 PTB4 (io), 22 PTC3 (io), 23 PTC2 (io), 24 PTC6 (io), 25 PTA20 (io), 26 GND26 (power), 27 PTA21 (io), 28 RSVD (io), 29 RSVD (io), 30 GND30 (power), 31 RSVD (power), 32 PTA18 (io), 33 RSVD (io), 34 RSVD (io), 35 RSVD (io), 36 VOUT_SWITCH (power), 37 RSVD (io), 38 XTAL_OUT (out), 39 VREFO (out), 40 PTC7 (io), 41 RSVD (io), 42 RSVD (io), 43 RSVD (io), 44 RSVD (io), 45 SWITCH_WAKEUP (in), 46 PTA17 (io), 47 PTC1/LPSPI1_PCS3 (io), 48 PTB1/LPSPI1_SIN (io), 49 PTC0/LPSPI1_PCS2 (io), 50 PTB3/LPSPI1_SOUT (io), 51 PTB0/LPSPI1_PCS0 (io), 52 PTB2/QSPI1_SCK (io), 53 GND53 (power), 54 RSVD (io), 55 RSVD (io), 56 EGP56 (power), 57 EGP57 (power), 58 EGP58 (power), 59 EGP59 (power), 60 EGP60 (power), 61 EGP61 (power), 62 EGP62 (power), 63 EGP63 (power), 64 EGP64 (power), 65 EGP65 (power), 66 EGP66 (power), 67 EGP67 (power), 68 EAGP68 (power), 69 EAGP69 (power), 70 EAGP70 (power), 71 EAGP71 (power)

## NINA-W101
designator U?
u-blox NINA-W101 WiFi, Bluetooth dual-mode module; Part Description: Stand-alone Bluetooth low energy module; Manufacturer: u-blox; Value: NINA-W101
footprint NINA_LGA48R_1060X1000X220_PIN (Stand-alone Bluetooth low energy module)
pins: 1 GPIO_1/SPI_V_MOSI (io), 2 GPI_2/ADC_2 (in), 3 GPI_3/ADC_3 (in), 4 GPI_4/ADC_4 (in), 5 GPIO_5 (io), 6 GND6 (power), 7 LPO_IN (io), 8 GPIO_8/RMII_TXEN/SPI_V_HD (io), 9 VCC_IO (power), 10 VCC (power), 11 RSVD11, 12 GND12 (power), 13 ANT (io), 14 GND14 (power), 15 RSVD15, 16 GPIO_16/RMII_RXD0/DAC_16 (io), 17 GPIO_17/RMII_RXD1/DAC_17 (io), 18 GPIO_18/RMII_CRSDV (io), 19 RESET_N (in), 20 GPIO_20/UART_RTS/RMII_TXD1/SPI_V_WP (io), 21 GPIO_21/UART_CTS/RMII_TXD0/SPI_V_MISO (io), 22 GPIO_22/UART_TXD (io), 23 GPIO_23/UART_RXD (io), 24 GPIO_24/RMII_MDIO (io), 25 RMII_MDCLK (io), 26 GND26 (power), 27 RMII_CLK/SYS_BOOT (in), 28 GPIO_28/SPI_V_CS (io), 29 GPIO_29/SPI_V_CLK (io), 30 GND30 (power), 31 GPIO_31/JTAG_TMS (io), 32 LOG_BOOT/JTAG_TDO (io), 33 RSVD33, 34 GPI_34/ADC_34 (in), 35 GPIO_35/JTAG_CLK (io), 36 GPIO_36/JTAG_TDI (io), 37 EGP37 (power), 38 EGP38 (power), 39 EGP39 (power), 40 EGP40 (power), 41 EGP41 (power), 42 EGP42 (power), 43 EGP43 (power), 44 EGP44 (power), 45 EGP45 (power), 46 EGP46 (power), 47 EGP47 (power), 48 EGP48 (power)

## NINA-W102
designator U?
u-blox NINA-W102 WiFi, Bluetooth dual-mode module; Part Description: Stand-alone Bluetooth low energy module; Manufacturer: u-blox; Value: NINA-W102
footprint NINA_LGA48R_1400X1000X380_PIFA (Stand-alone Bluetooth low energy module)
pins: 1 GPIO_1/SPI_V_MOSI (io), 2 GPI_2/ADC_2 (in), 3 GPI_3/ADC_3 (in), 4 GPI_4/ADC_4 (in), 5 GPIO_5 (io), 6 GND6 (power), 7 LPO_IN (io), 8 GPIO_8/RMII_TXEN/SPI_V_HD (io), 9 VCC_IO (power), 10 VCC (power), 11 RSVD11, 12 GND12 (power), 13 RSVD13, 14 GND14 (power), 15 RSVD15, 16 GPIO_16/RMII_RXD0/DAC_16 (io), 17 GPIO_17/RMII_RXD1/DAC_17 (io), 18 GPIO_18/RMII_CRSDV (io), 19 RESET_N (in), 20 GPIO_20/UART_RTS/RMII_TXD1/SPI_V_WP (io), 21 GPIO_21/UART_CTS/RMII_TXD0/SPI_V_MISO (io), 22 GPIO_22/UART_TXD (io), 23 GPIO_23/UART_RXD (io), 24 GPIO_24/RMII_MDIO (io), 25 RMII_MDCLK (io), 26 GND26 (power), 27 RMII_CLK/SYS_BOOT (in), 28 GPIO_28/SPI_V_CS (io), 29 GPIO_29/SPI_V_CLK (io), 30 GND30 (power), 31 GPIO_31/JTAG_TMS (io), 32 LOG_BOOT/JTAG_TDO (io), 33 RSVD33, 34 GPI_34/ADC_34 (in), 35 GPIO_35/JTAG_CLK (io), 36 GPIO_36/JTAG_TDI (io), 37 EGP37 (power), 38 EGP38 (power), 39 EGP39 (power), 40 EGP40 (power), 41 EGP41 (power), 42 EGP42 (power), 43 EGP43 (power), 44 EGP44 (power), 45 EGP45 (power), 46 EGP46 (power), 47 EGP47 (power), 48 EGP48 (power)

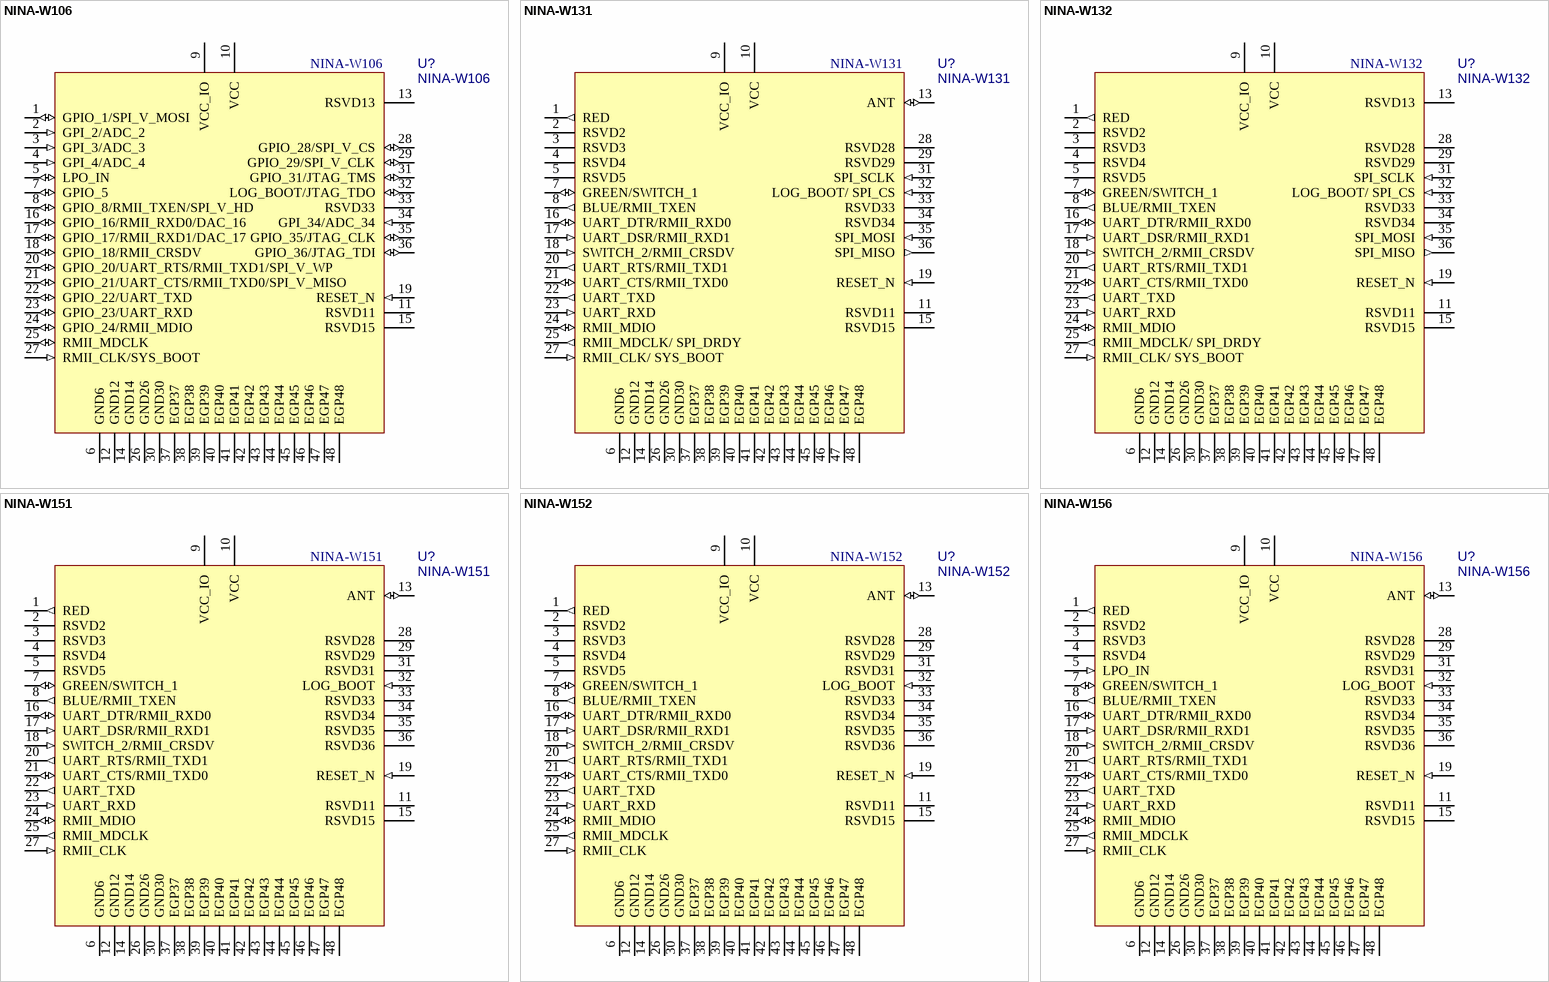
[diagram p13: symbols NINA-W106 to NINA-W156]

## NINA-W106
designator U?
u-blox NINA-W102 WiFi, Bluetooth dual-mode module; Part Description: Stand-alone Bluetooth low energy module; Manufacturer: u-blox; Value: NINA-W106
footprint NINA_LGA48R_1400X1000X223_PCB (Stand-alone Bluetooth low energy module)
pins: 1 GPIO_1/SPI_V_MOSI (io), 2 GPI_2/ADC_2 (in), 3 GPI_3/ADC_3 (in), 4 GPI_4/ADC_4 (in), 5 LPO_IN (io), 6 GND6 (power), 7 GPIO_5 (io), 8 GPIO_8/RMII_TXEN/SPI_V_HD (io), 9 VCC_IO (power), 10 VCC (power), 11 RSVD11, 12 GND12 (power), 13 RSVD13, 14 GND14 (power), 15 RSVD15, 16 GPIO_16/RMII_RXD0/DAC_16 (io), 17 GPIO_17/RMII_RXD1/DAC_17 (io), 18 GPIO_18/RMII_CRSDV (io), 19 RESET_N (in), 20 GPIO_20/UART_RTS/RMII_TXD1/SPI_V_WP (io), 21 GPIO_21/UART_CTS/RMII_TXD0/SPI_V_MISO (io), 22 GPIO_22/UART_TXD (io), 23 GPIO_23/UART_RXD (io), 24 GPIO_24/RMII_MDIO (io), 25 RMII_MDCLK (io), 26 GND26 (power), 27 RMII_CLK/SYS_BOOT (in), 28 GPIO_28/SPI_V_CS (io), 29 GPIO_29/SPI_V_CLK (io), 30 GND30 (power), 31 GPIO_31/JTAG_TMS (io), 32 LOG_BOOT/JTAG_TDO (io), 33 RSVD33, 34 GPI_34/ADC_34 (in), 35 GPIO_35/JTAG_CLK (io), 36 GPIO_36/JTAG_TDI (io), 37 EGP37 (power), 38 EGP38 (power), 39 EGP39 (power), 40 EGP40 (power), 41 EGP41 (power), 42 EGP42 (power), 43 EGP43 (power), 44 EGP44 (power), 45 EGP45 (power), 46 EGP46 (power), 47 EGP47 (power), 48 EGP48 (power)

## NINA-W131
designator U?
u-blox NINA-W131 WiFi module; Part Description: Stand-alone Bluetooth low energy module; Manufacturer: u-blox; Value: NINA-W131
footprint NINA_LGA48R_1060X1000X220_PIN (Stand-alone Bluetooth low energy module)
pins: 1 RED (out), 2 RSVD2, 3 RSVD3, 4 RSVD4, 5 RSVD5, 6 GND6 (power), 7 GREEN/SWITCH_1 (io), 8 BLUE/RMII_TXEN (out), 9 VCC_IO (power), 10 VCC (power), 11 RSVD11, 12 GND12 (power), 13 ANT (io), 14 GND14 (power), 15 RSVD15, 16 UART_DTR/RMII_RXD0 (io), 17 UART_DSR/RMII_RXD1 (in), 18 SWITCH_2/RMII_CRSDV (in), 19 RESET_N (in), 20 UART_RTS/RMII_TXD1 (out), 21 UART_CTS/RMII_TXD0 (io), 22 UART_TXD (out), 23 UART_RXD (in), 24 RMII_MDIO (io), 25 RMII_MDCLK/ SPI_DRDY (out), 26 GND26 (power), 27 RMII_CLK/ SYS_BOOT (in), 28 RSVD28, 29 RSVD29, 30 GND30 (power), 31 SPI_SCLK (in), 32 LOG_BOOT/ SPI_CS (in), 33 RSVD33, 34 RSVD34, 35 SPI_MOSI (in), 36 SPI_MISO (out), 37 EGP37 (power), 38 EGP38 (power), 39 EGP39 (power), 40 EGP40 (power), 41 EGP41 (power), 42 EGP42 (power), 43 EGP43 (power), 44 EGP44 (power), 45 EGP45 (power), 46 EGP46 (power), 47 EGP47 (power), 48 EGP48 (power)

## NINA-W132
designator U?
u-blox NINA-W1312WiFi module; Part Description: Stand-alone Bluetooth low energy module; Manufacturer: u-blox; Value: NINA-W132
footprint NINA_LGA48R_1400X1000X380_PIFA (Stand-alone Bluetooth low energy module)
pins: 1 RED (out), 2 RSVD2, 3 RSVD3, 4 RSVD4, 5 RSVD5, 6 GND6 (power), 7 GREEN/SWITCH_1 (io), 8 BLUE/RMII_TXEN (out), 9 VCC_IO (power), 10 VCC (power), 11 RSVD11, 12 GND12 (power), 13 RSVD13, 14 GND14 (power), 15 RSVD15, 16 UART_DTR/RMII_RXD0 (io), 17 UART_DSR/RMII_RXD1 (in), 18 SWITCH_2/RMII_CRSDV (in), 19 RESET_N (in), 20 UART_RTS/RMII_TXD1 (out), 21 UART_CTS/RMII_TXD0 (io), 22 UART_TXD (out), 23 UART_RXD (in), 24 RMII_MDIO (io), 25 RMII_MDCLK/ SPI_DRDY (out), 26 GND26 (power), 27 RMII_CLK/ SYS_BOOT (in), 28 RSVD28, 29 RSVD29, 30 GND30 (power), 31 SPI_SCLK (in), 32 LOG_BOOT/ SPI_CS (in), 33 RSVD33, 34 RSVD34, 35 SPI_MOSI (in), 36 SPI_MISO (out), 37 EGP37 (power), 38 EGP38 (power), 39 EGP39 (power), 40 EGP40 (power), 41 EGP41 (power), 42 EGP42 (power), 43 EGP43 (power), 44 EGP44 (power), 45 EGP45 (power), 46 EGP46 (power), 47 EGP47 (power), 48 EGP48 (power)

## NINA-W151
designator U?
u-blox NINA-W151 WiFi, Bluetooth dual-mode module; Part Description: Stand-alone Bluetooth low energy module; Manufacturer: u-blox; Value: NINA-W151
footprint NINA_LGA48R_1060X1000X220_PIN (Stand-alone Bluetooth low energy module)
pins: 1 RED (out), 2 RSVD2, 3 RSVD3, 4 RSVD4, 5 RSVD5, 6 GND6 (power), 7 GREEN/SWITCH_1 (io), 8 BLUE/RMII_TXEN (out), 9 VCC_IO (power), 10 VCC (power), 11 RSVD11, 12 GND12 (power), 13 ANT (io), 14 GND14 (power), 15 RSVD15, 16 UART_DTR/RMII_RXD0 (io), 17 UART_DSR/RMII_RXD1 (in), 18 SWITCH_2/RMII_CRSDV (in), 19 RESET_N (in), 20 UART_RTS/RMII_TXD1 (out), 21 UART_CTS/RMII_TXD0 (io), 22 UART_TXD (out), 23 UART_RXD (in), 24 RMII_MDIO (io), 25 RMII_MDCLK (out), 26 GND26 (power), 27 RMII_CLK (in), 28 RSVD28, 29 RSVD29, 30 GND30 (power), 31 RSVD31, 32 LOG_BOOT (in), 33 RSVD33, 34 RSVD34, 35 RSVD35, 36 RSVD36, 37 EGP37 (power), 38 EGP38 (power), 39 EGP39 (power), 40 EGP40 (power), 41 EGP41 (power), 42 EGP42 (power), 43 EGP43 (power), 44 EGP44 (power), 45 EGP45 (power), 46 EGP46 (power), 47 EGP47 (power), 48 EGP48 (power)

## NINA-W152
designator U?
u-blox NINA-W152 WiFi, Bluetooth dual-mode module; Part Description: Stand-alone Bluetooth low energy module; Manufacturer: u-blox; Value: NINA-W152
footprint NINA_LGA48R_1400X1000X380_PIFA (Stand-alone Bluetooth low energy module)
pins: 1 RED (out), 2 RSVD2, 3 RSVD3, 4 RSVD4, 5 RSVD5, 6 GND6 (power), 7 GREEN/SWITCH_1 (io), 8 BLUE/RMII_TXEN (out), 9 VCC_IO (power), 10 VCC (power), 11 RSVD11, 12 GND12 (power), 13 ANT (io), 14 GND14 (power), 15 RSVD15, 16 UART_DTR/RMII_RXD0 (io), 17 UART_DSR/RMII_RXD1 (in), 18 SWITCH_2/RMII_CRSDV (in), 19 RESET_N (in), 20 UART_RTS/RMII_TXD1 (out), 21 UART_CTS/RMII_TXD0 (io), 22 UART_TXD (out), 23 UART_RXD (in), 24 RMII_MDIO (io), 25 RMII_MDCLK (out), 26 GND26 (power), 27 RMII_CLK (in), 28 RSVD28, 29 RSVD29, 30 GND30 (power), 31 RSVD31, 32 LOG_BOOT (in), 33 RSVD33, 34 RSVD34, 35 RSVD35, 36 RSVD36, 37 EGP37 (power), 38 EGP38 (power), 39 EGP39 (power), 40 EGP40 (power), 41 EGP41 (power), 42 EGP42 (power), 43 EGP43 (power), 44 EGP44 (power), 45 EGP45 (power), 46 EGP46 (power), 47 EGP47 (power), 48 EGP48 (power)

## NINA-W156
designator U?
u-blox NINA-W156 WiFi, Bluetooth dual-mode module; Part Description: Stand-alone Bluetooth low energy module; Manufacturer: u-blox; Value: NINA-W156
footprint NINA_LGA48R_1400X1000X223_PCB (Stand-alone Bluetooth low energy module)
pins: 1 RED (out), 2 RSVD2, 3 RSVD3, 4 RSVD4, 5 LPO_IN (in), 6 GND6 (power), 7 GREEN/SWITCH_1 (io), 8 BLUE/RMII_TXEN (out), 9 VCC_IO (power), 10 VCC (power), 11 RSVD11, 12 GND12 (power), 13 ANT (io), 14 GND14 (power), 15 RSVD15, 16 UART_DTR/RMII_RXD0 (io), 17 UART_DSR/RMII_RXD1 (in), 18 SWITCH_2/RMII_CRSDV (in), 19 RESET_N (in), 20 UART_RTS/RMII_TXD1 (out), 21 UART_CTS/RMII_TXD0 (io), 22 UART_TXD (out), 23 UART_RXD (in), 24 RMII_MDIO (io), 25 RMII_MDCLK (out), 26 GND26 (power), 27 RMII_CLK (in), 28 RSVD28, 29 RSVD29, 30 GND30 (power), 31 RSVD31, 32 LOG_BOOT (in), 33 RSVD33, 34 RSVD34, 35 RSVD35, 36 RSVD36, 37 EGP37 (power), 38 EGP38 (power), 39 EGP39 (power), 40 EGP40 (power), 41 EGP41 (power), 42 EGP42 (power), 43 EGP43 (power), 44 EGP44 (power), 45 EGP45 (power), 46 EGP46 (power), 47 EGP47 (power), 48 EGP48 (power)

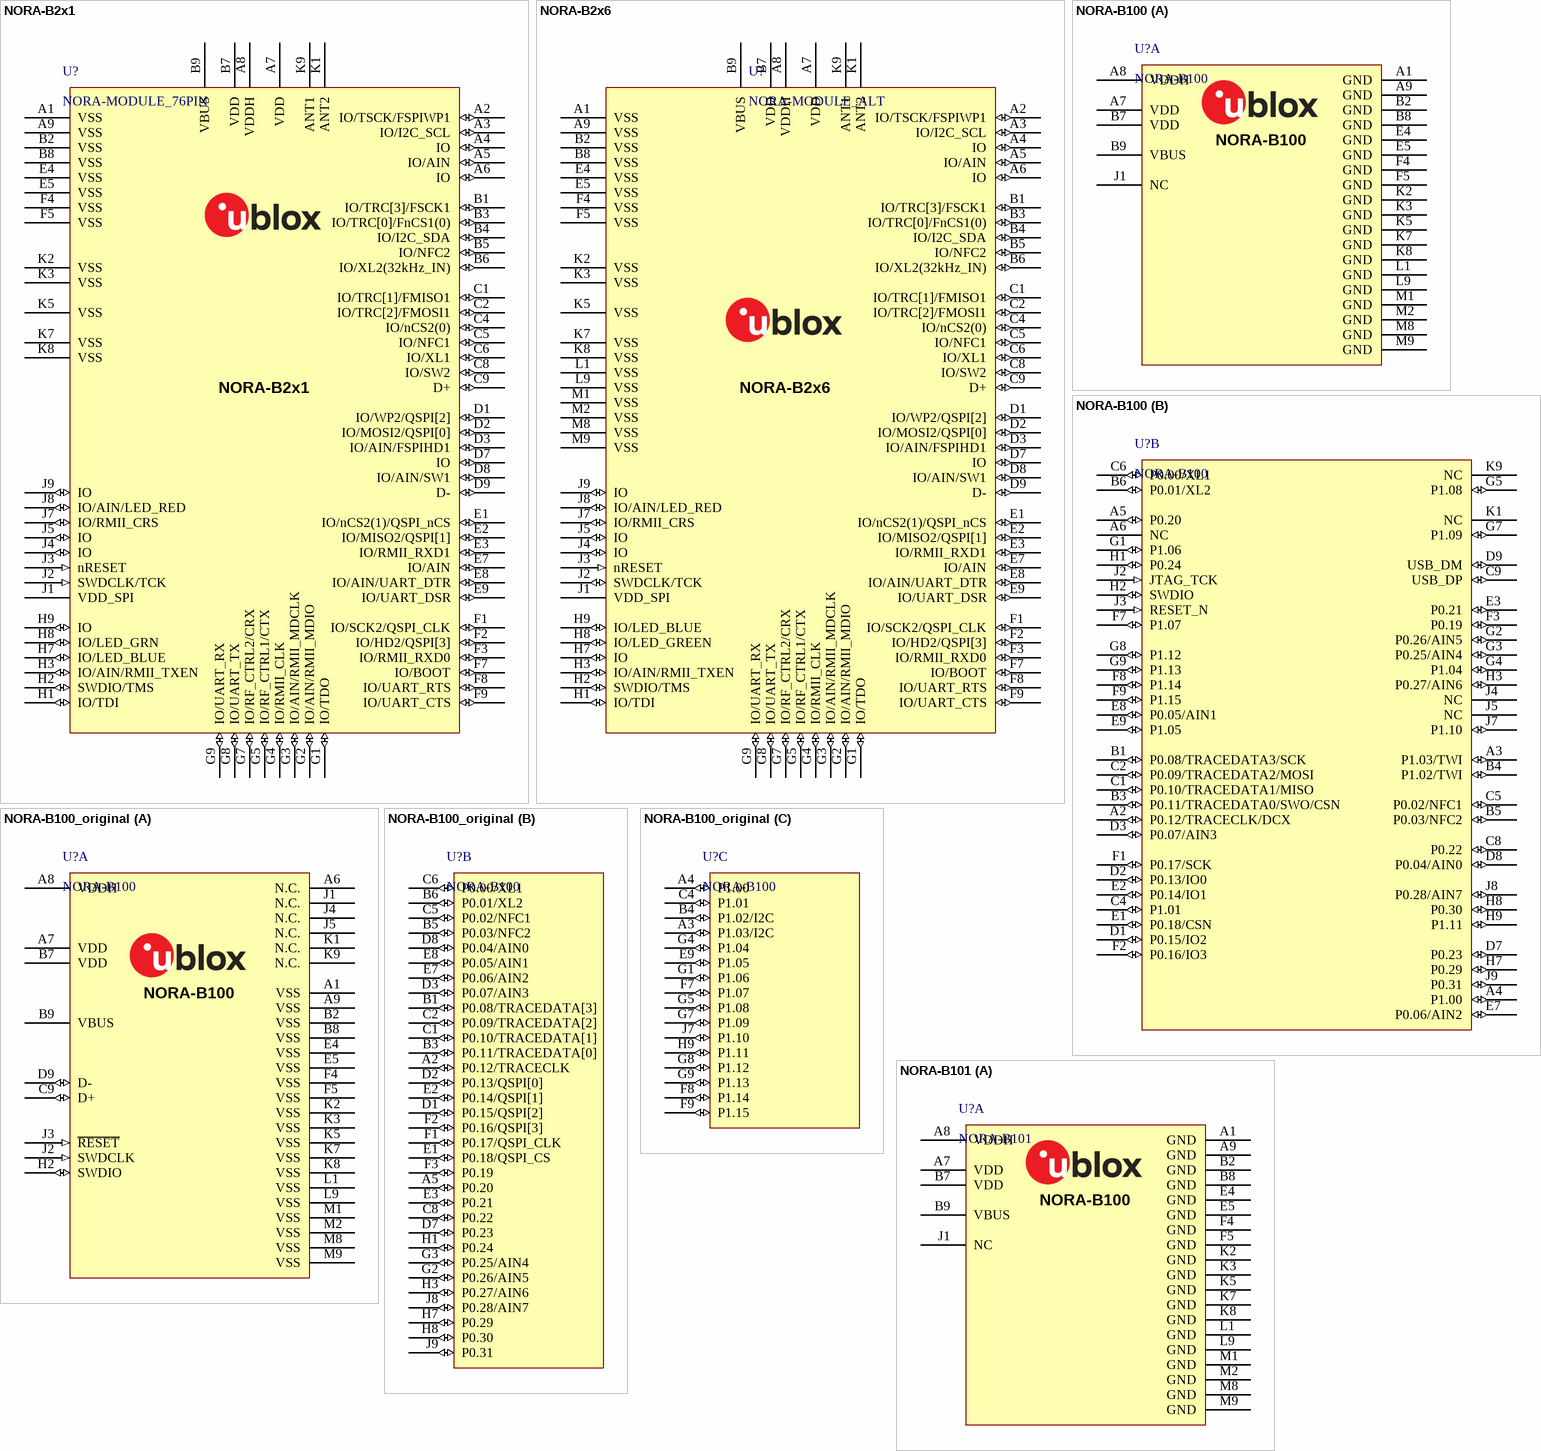
[diagram p14: symbols NORA-B2x1 to NORA-B101]